# Altium integrated library SparkFun-Boards.Library.IntLib: 67 symbols (part 1 of 2)
Pins are listed as number, name and electrical type; pins without a type are passive.

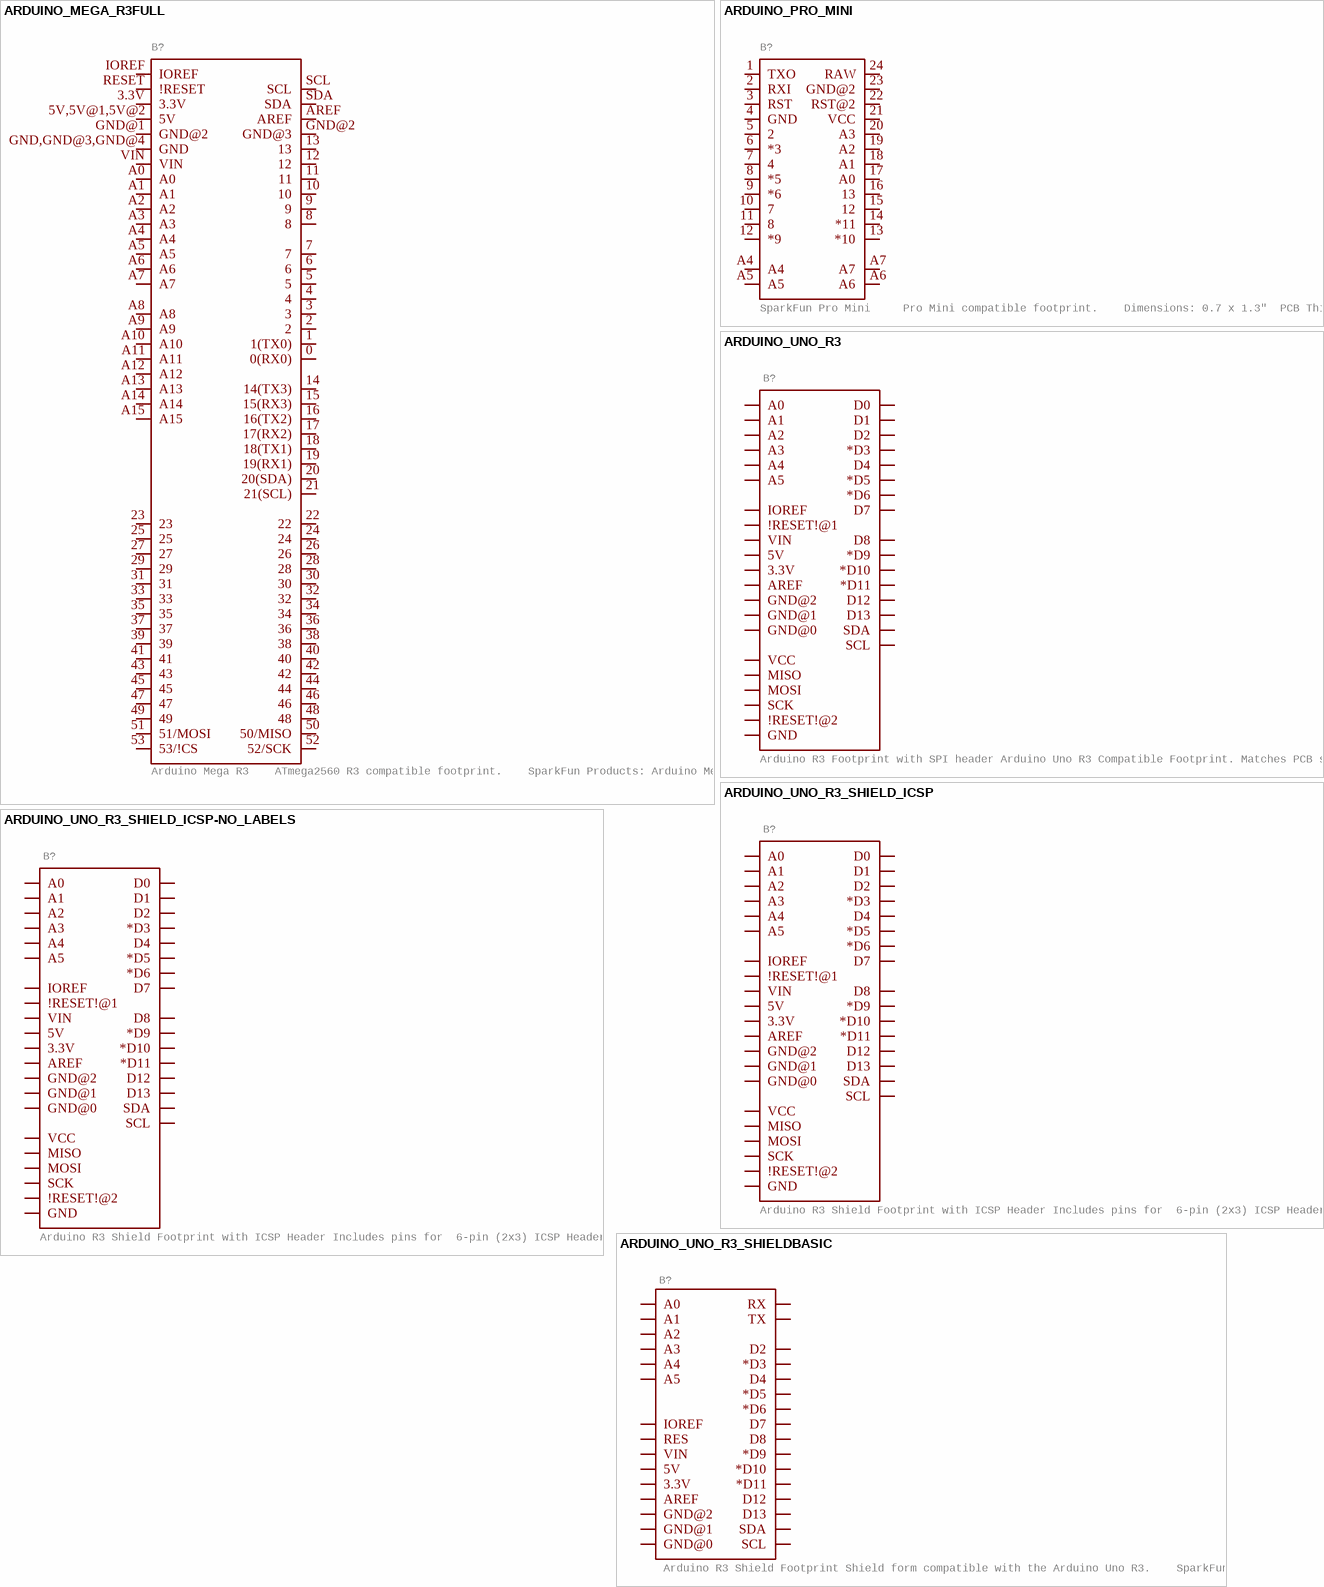
[diagram p0: symbols ARDUINO_MEGA_R3FULL to ARDUINO_UNO_R3_SHIELDBASIC]

## ARDUINO_MEGA_R3FULL
designator B?, comment Arduino Mega R3    ATmega2560 R3 compatible footprint.    SparkFun Products: Arduino Mega 2560 R3
GateName_1: B1; SymbolName_1: ARDUINO-MEGA; DeviceName: FULL; DeviceSetName: ARDUINO_MEGA_R3; LibraryName: SparkFun-Boards; Package: ARDUINO_MEGA_NO_SILK
footprint ARDUINO_MEGA_NO_SILK
pins: 0 0(RX0) (io), 1 1(TX0) (io), 2 (io), 3 (io), 3.3V (io), 4 (io), 5 (io), 5V,5V@1,5V@2 5V (io), 6 (io), 7 (io), 8 (io), 9 (io), 10 (io), 11 (io), 12 (io), 13 (io), 14 14(TX3) (io), 15 15(RX3) (io), 16 16(TX2) (io), 17 17(RX2) (io), 18 18(TX1) (io), 19 19(RX1) (io), 20 20(SDA) (io), 21 21(SCL) (io), 22 (io), 23 (io), 24 (io), 25 (io), 26 (io), 27 (io), 28 (io), 29 (io), 30 (io), 31 (io), 32 (io), 33 (io), 34 (io), 35 (io), 36 (io), 37 (io), 38 (io), 39 (io), 40 (io), 41 (io), 42 (io), 43 (io), 44 (io), 45 (io), 46 (io), 47 (io), 48 (io), 49 (io), 50 50/MISO (io), 51 51/MOSI (io), 52 52/SCK (io), 53 53/!CS (io), A0 (io), A1 (io), A2 (io), A3 (io), A4 (io), A5 (io), A6 (io), A7 (io), A8 (io), A9 (io), A10 (io), A11 (io), A12 (io), A13 (io), A14 (io), A15 (io), AREF (io), GND,GND@3,GND@4 GND (io), GND@1 GND@2 (io), GND@2 GND@3 (io), IOREF (io), RESET !RESET (io), SCL (io), SDA (io), VIN (io)

## ARDUINO_PRO_MINI
designator B?, comment SparkFun Pro Mini     Pro Mini compatible footprint.    Dimensions: 0.7 x 1.3"  PCB Thickness: 0.8mm    SparkFun Products: 3.3V/8MHz  5V/16MHz
GateName_1: G$1; SymbolName_1: PRO_MINI; DeviceSetName: ARDUINO_PRO_MINI; LibraryName: SparkFun-Boards; Package: ARDUINO_PRO_MINI
footprint ARDUINO_PRO_MINI
pins: 1 TXO (io), 2 RXI (io), 3 RST (io), 4 GND (power), 5 2 (io), 6 *3 (io), 7 4 (io), 8 *5 (io), 9 *6 (io), 10 7 (io), 11 8 (io), 12 *9 (io), 13 *10 (io), 14 *11 (io), 15 12 (io), 16 13 (io), 17 A0 (io), 18 A1 (io), 19 A2 (io), 20 A3 (io), 21 VCC (power), 22 RST@2 (io), 23 GND@2 (power), 24 RAW (power), A4 (io), A5 (io), A6 (io), A7 (io)

## ARDUINO_UNO_R3
designator B?, comment Arduino R3 Footprint with SPI header Arduino Uno R3 Compatible Footprint. Matches PCB size of the original board.    SparkFun Products:  SAMD21 Dev Breakout  RedBoard   R3 Stackable Headers
GateName_1: G$1; SymbolName_1: ARDUINO_R3; DeviceSetName: ARDUINO_UNO_R3; LibraryName: SparkFun-Boards; Package: ARDUINO_R3
footprint ARDUINO_R3
pins: 3.3V (io), 5V (io), A0 (io), A1 (io), A2 (io), A3 (io), A4 (io), A5 (io), AREF (io), D0 (io), D1 (io), D2 (io), D3 *D3 (io), D4 (io), D5 *D5 (io), D6 *D6 (io), D7 (io), D8 (io), D9 *D9 (io), D10 *D10 (io), D11 *D11 (io), D12 (io), D13 (io), GND@1 GND (io), GND@2 GND@0 (io), GND@3 GND@1 (io), GND@4 GND@2 (io), IOREF (io), MISO (io), MOSI (io), RESET@1 !RESET!@1 (io), RESET@2 !RESET!@2 (io), SCK (io), SCL (io), SDA (io), VCC (io), VIN (io)

## ARDUINO_UNO_R3_SHIELD_ICSP
designator B?, comment Arduino R3 Shield Footprint with ICSP Header Includes pins for  6-pin (2x3) ICSP Header. Compatible with Leonardo boards that require SPI pin connections via this header.    SparkFun Products:  CryptoShield  microSD Shield R3 Stackable Headers Kit
GateName_1: G$1; SymbolName_1: ARDUINO_R3; DeviceSetName: ARDUINO_UNO_R3_SHIELD_ICSP; LibraryName: SparkFun-Boards; Package: UNO_R3_SHIELD_ICSP
footprint UNO_R3_SHIELD_ICSP
pins: 3.3V (io), 5V (io), 5V_ICSP VCC (io), A0 (io), A1 (io), A2 (io), A3 (io), A4 (io), A5 (io), AREF (io), D2 (io), D3 *D3 (io), D4 (io), D5 *D5 (io), D6 *D6 (io), D7 (io), D8 (io), D9 *D9 (io), D10 *D10 (io), D11 *D11 (io), D12 (io), D13 (io), GND@0 (io), GND@1 (io), GND@2 (io), GND_ICSP GND (io), IOREF (io), MISO (io), MOSI (io), RES !RESET!@1 (io), RST_ICSP !RESET!@2 (io), RX D0 (io), SCK (io), SCL (io), SDA (io), TX D1 (io), VIN (io)

## ARDUINO_UNO_R3_SHIELD_ICSP-NO_LABELS
designator B?, comment Arduino R3 Shield Footprint with ICSP Header Includes pins for  6-pin (2x3) ICSP Header. Compatible with Leonardo boards that require SPI pin connections via this header.    SparkFun Products:  CryptoShield  microSD Shield R3 Stackable Headers Kit
GateName_1: G$1; SymbolName_1: ARDUINO_R3; DeviceName: -NO_LABELS; DeviceSetName: ARDUINO_UNO_R3_SHIELD_ICSP; LibraryName: SparkFun-Boards; Package: UNO_R3_SHIELD_ICSP_NOLABELS
footprint UNO_R3_SHIELD_ICSP_NOLABELS
pins: 3.3V (io), 5V (io), 5V_ICSP VCC (io), A0 (io), A1 (io), A2 (io), A3 (io), A4 (io), A5 (io), AREF (io), D2 (io), D3 *D3 (io), D4 (io), D5 *D5 (io), D6 *D6 (io), D7 (io), D8 (io), D9 *D9 (io), D10 *D10 (io), D11 *D11 (io), D12 (io), D13 (io), GND@0 (io), GND@1 (io), GND@2 (io), GND_ICSP GND (io), IOREF (io), MISO (io), MOSI (io), RES !RESET!@1 (io), RST_ICSP !RESET!@2 (io), RX D0 (io), SCK (io), SCL (io), SDA (io), TX D1 (io), VIN (io)

## ARDUINO_UNO_R3_SHIELDBASIC
designator B?, comment Arduino R3 Shield Footprint Shield form compatible with the Arduino Uno R3.    SparkFun Products:  MG2639 Cellular Shield  MIDI Shield R3 Stackable Headers Kit
GateName_1: G$1; SymbolName_1: ARDUINO_R3_SHIELD; DeviceName: BASIC; DeviceSetName: ARDUINO_UNO_R3_SHIELD; LibraryName: SparkFun-Boards; Package: UNO_R3_SHIELD
footprint UNO_R3_SHIELD
pins: 3.3V (io), 5V (io), A0 (io), A1 (io), A2 (io), A3 (io), A4 (io), A5 (io), AREF (io), D2 (io), D3 *D3 (io), D4 (io), D5 *D5 (io), D6 *D6 (io), D7 (io), D8 (io), D9 *D9 (io), D10 *D10 (io), D11 *D11 (io), D12 (io), D13 (io), GND@0 (io), GND@1 (io), GND@2 (io), IOREF (io), RES (io), RX (io), SCL (io), SDA (io), TX (io), VIN (io)

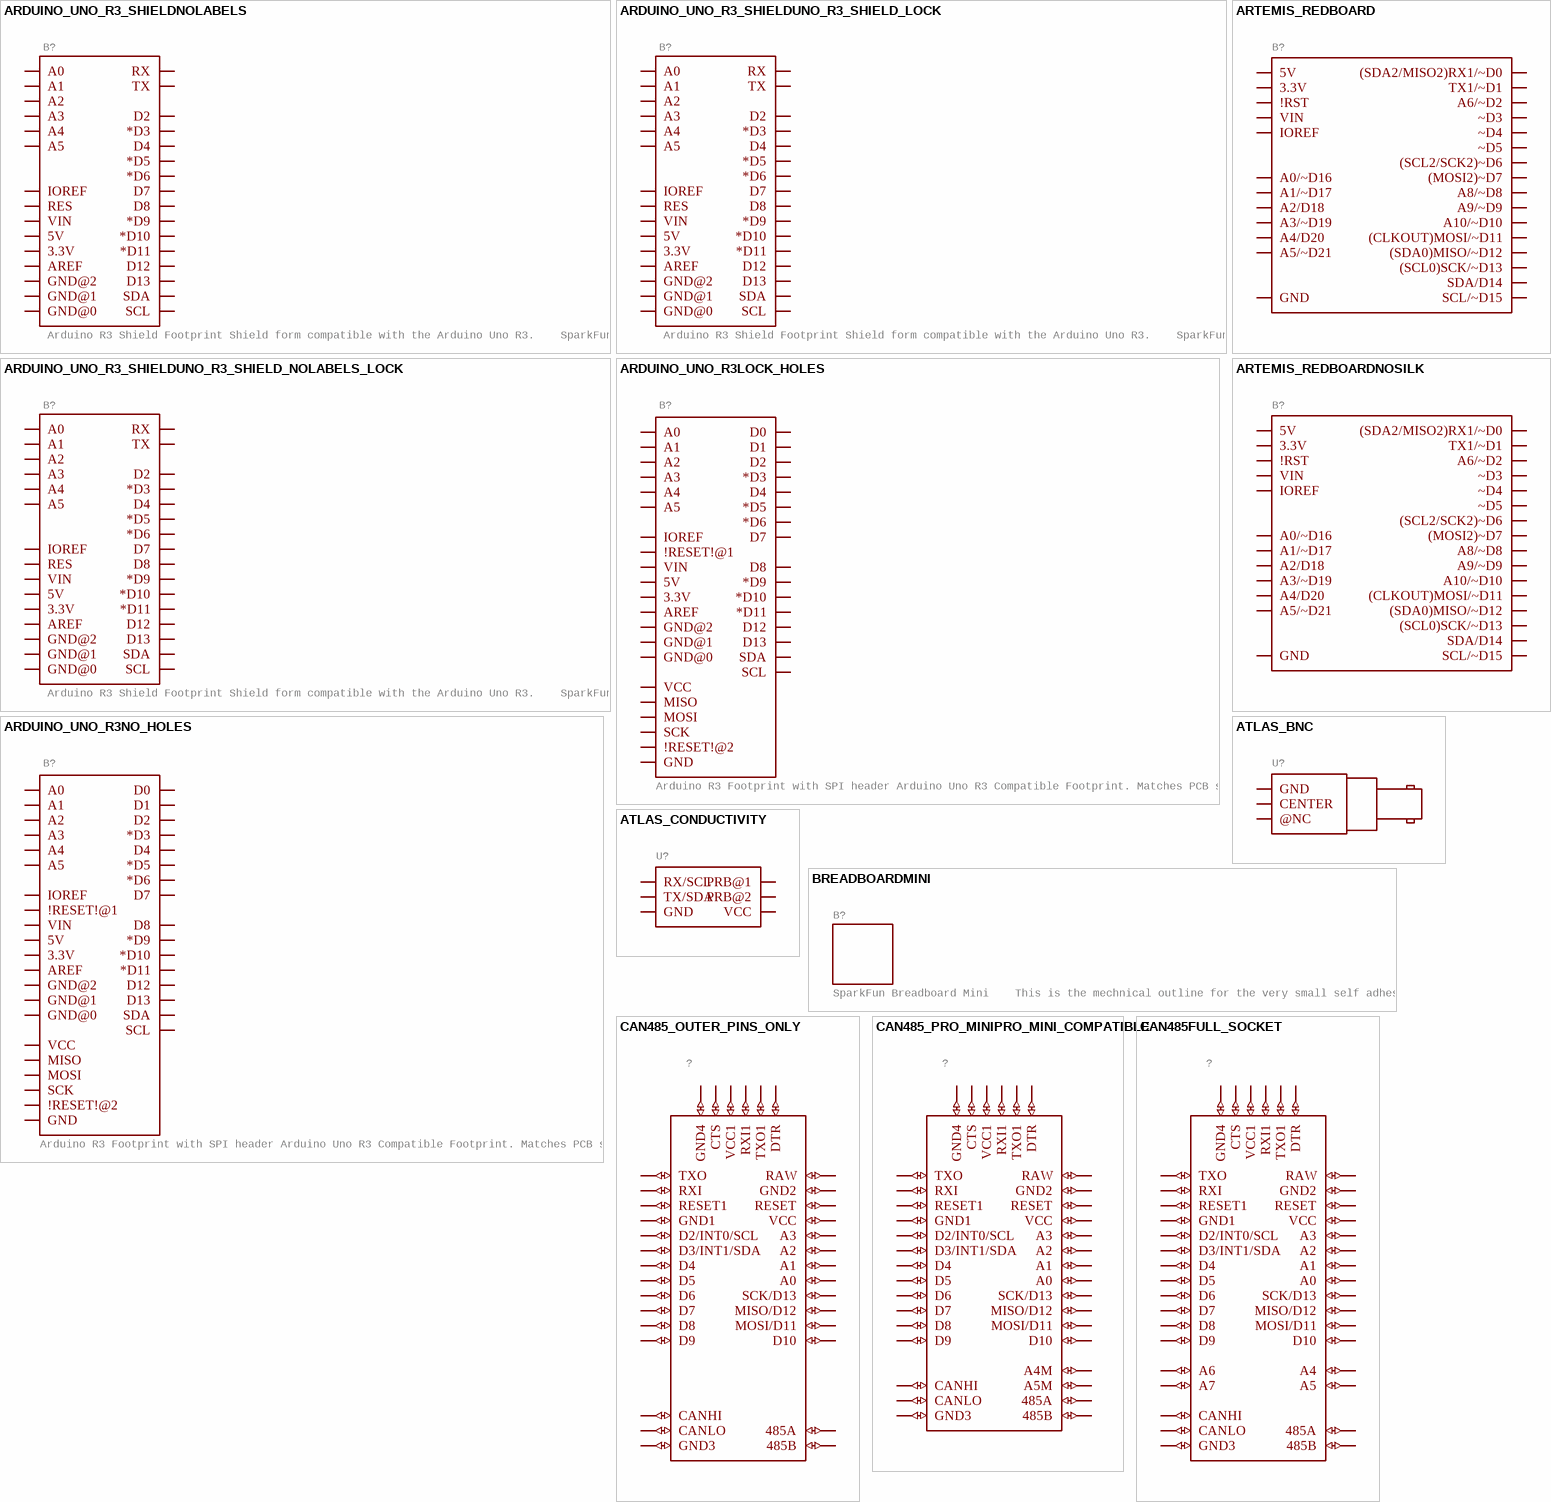
[diagram p1: symbols ARDUINO_UNO_R3_SHIELDNOLABELS to CAN485FULL_SOCKET]

## ARDUINO_UNO_R3_SHIELDNOLABELS
designator B?, comment Arduino R3 Shield Footprint Shield form compatible with the Arduino Uno R3.    SparkFun Products:  MG2639 Cellular Shield  MIDI Shield R3 Stackable Headers Kit
GateName_1: G$1; SymbolName_1: ARDUINO_R3_SHIELD; DeviceName: NOLABELS; DeviceSetName: ARDUINO_UNO_R3_SHIELD; LibraryName: SparkFun-Boards; Package: UNO_R3_SHIELD_NOLABELS
footprint UNO_R3_SHIELD_NOLABELS
pins: 3.3V (io), 5V (io), A0 (io), A1 (io), A2 (io), A3 (io), A4 (io), A5 (io), AREF (io), D2 (io), D3 *D3 (io), D4 (io), D5 *D5 (io), D6 *D6 (io), D7 (io), D8 (io), D9 *D9 (io), D10 *D10 (io), D11 *D11 (io), D12 (io), D13 (io), GND@0 (io), GND@1 (io), GND@2 (io), IOREF (io), RES (io), RX (io), SCL (io), SDA (io), TX (io), VIN (io)

## ARDUINO_UNO_R3_SHIELDUNO_R3_SHIELD_LOCK
designator B?, comment Arduino R3 Shield Footprint Shield form compatible with the Arduino Uno R3.    SparkFun Products:  MG2639 Cellular Shield  MIDI Shield R3 Stackable Headers Kit
GateName_1: G$1; SymbolName_1: ARDUINO_R3_SHIELD; DeviceName: UNO_R3_SHIELD_LOCK; DeviceSetName: ARDUINO_UNO_R3_SHIELD; LibraryName: SparkFun-Boards; Package: UNO_R3_SHIELD_LOCK
footprint UNO_R3_SHIELD_LOCK
pins: 3.3V (io), 5V (io), A0 (io), A1 (io), A2 (io), A3 (io), A4 (io), A5 (io), AREF (io), D2 (io), D3 *D3 (io), D4 (io), D5 *D5 (io), D6 *D6 (io), D7 (io), D8 (io), D9 *D9 (io), D10 *D10 (io), D11 *D11 (io), D12 (io), D13 (io), GND@0 (io), GND@1 (io), GND@2 (io), IOREF (io), RES (io), RX (io), SCL (io), SDA (io), TX (io), VIN (io)

## ARDUINO_UNO_R3_SHIELDUNO_R3_SHIELD_NOLABELS_LOCK
designator B?, comment Arduino R3 Shield Footprint Shield form compatible with the Arduino Uno R3.    SparkFun Products:  MG2639 Cellular Shield  MIDI Shield R3 Stackable Headers Kit
GateName_1: G$1; SymbolName_1: ARDUINO_R3_SHIELD; DeviceName: UNO_R3_SHIELD_NOLABELS_LOCK; DeviceSetName: ARDUINO_UNO_R3_SHIELD; LibraryName: SparkFun-Boards; Package: UNO_R3_SHIELD_NOLABELS_LOCK
footprint UNO_R3_SHIELD_NOLABELS_LOCK
pins: 3.3V (io), 5V (io), A0 (io), A1 (io), A2 (io), A3 (io), A4 (io), A5 (io), AREF (io), D2 (io), D3 *D3 (io), D4 (io), D5 *D5 (io), D6 *D6 (io), D7 (io), D8 (io), D9 *D9 (io), D10 *D10 (io), D11 *D11 (io), D12 (io), D13 (io), GND@0 (io), GND@1 (io), GND@2 (io), IOREF (io), RES (io), RX (io), SCL (io), SDA (io), TX (io), VIN (io)

## ARDUINO_UNO_R3LOCK_HOLES
designator B?, comment Arduino R3 Footprint with SPI header Arduino Uno R3 Compatible Footprint. Matches PCB size of the original board.    SparkFun Products:  SAMD21 Dev Breakout  RedBoard   R3 Stackable Headers
GateName_1: G$1; SymbolName_1: ARDUINO_R3; DeviceName: LOCK_HOLES; DeviceSetName: ARDUINO_UNO_R3; LibraryName: SparkFun-Boards; Package: ARDUINO_R3_LOCK_HOLES
footprint ARDUINO_R3_LOCK_HOLES
pins: 3.3V (io), 5V (io), A0 (io), A1 (io), A2 (io), A3 (io), A4 (io), A5 (io), AREF (io), D0 (io), D1 (io), D2 (io), D3 *D3 (io), D4 (io), D5 *D5 (io), D6 *D6 (io), D7 (io), D8 (io), D9 *D9 (io), D10 *D10 (io), D11 *D11 (io), D12 (io), D13 (io), GND@1 GND (io), GND@2 GND@0 (io), GND@3 GND@1 (io), GND@4 GND@2 (io), IOREF (io), MISO (io), MOSI (io), RESET@1 !RESET!@1 (io), RESET@2 !RESET!@2 (io), SCK (io), SCL (io), SDA (io), VCC (io), VIN (io)

## ARDUINO_UNO_R3NO_HOLES
designator B?, comment Arduino R3 Footprint with SPI header Arduino Uno R3 Compatible Footprint. Matches PCB size of the original board.    SparkFun Products:  SAMD21 Dev Breakout  RedBoard   R3 Stackable Headers
GateName_1: G$1; SymbolName_1: ARDUINO_R3; DeviceName: NO_HOLES; DeviceSetName: ARDUINO_UNO_R3; LibraryName: SparkFun-Boards; Package: ARDUINO_R3_NO_HOLES
footprint ARDUINO_R3_NO_HOLES
pins: 3.3V (io), 5V (io), A0 (io), A1 (io), A2 (io), A3 (io), A4 (io), A5 (io), AREF (io), D0 (io), D1 (io), D2 (io), D3 *D3 (io), D4 (io), D5 *D5 (io), D6 *D6 (io), D7 (io), D8 (io), D9 *D9 (io), D10 *D10 (io), D11 *D11 (io), D12 (io), D13 (io), GND@1 GND (io), GND@2 GND@0 (io), GND@3 GND@1 (io), GND@4 GND@2 (io), IOREF (io), MISO (io), MOSI (io), RESET@1 !RESET!@1 (io), RESET@2 !RESET!@2 (io), SCK (io), SCL (io), SDA (io), VCC (io), VIN (io)

## ARTEMIS_REDBOARD
designator B?
GateName_1: G$1; SymbolName_1: ARTEMIS_REDBOARD; LibraryName: SparkFun-Boards; DeviceSetName: ARTEMIS_REDBOARD; Package: ARTEMIS_REDBOARD_SILK
footprint ARTEMIS_REDBOARD_SILK
pins: 3.3V (io), 5V (io), A0 A0/~D16 (io), A1 A1/~D17 (io), A2 A2/D18 (io), A3 A3/~D19 (io), A4 A4/D20 (io), A5 A5/~D21 (io), D0 (SDA2/MISO2)RX1/~D0 (io), D1 TX1/~D1 (io), D2 A6/~D2 (io), D3 ~D3 (io), D4 ~D4 (io), D5 ~D5 (io), D6 (SCL2/SCK2)~D6 (io), D7 (MOSI2)~D7 (io), D8 A8/~D8 (io), D9 A9/~D9 (io), D10 A10/~D10 (io), D11 (CLKOUT)MOSI/~D11 (io), D12 (SDA0)MISO/~D12 (io), D13 (SCL0)SCK/~D13 (io), GND@1-4 GND (io), IOREF (io), RESET@1 !RST (io), SCL SCL/~D15 (io), SDA SDA/D14 (io), VIN (io)

## ARTEMIS_REDBOARDNOSILK
designator B?
GateName_1: G$1; SymbolName_1: ARTEMIS_REDBOARD; DeviceName: NOSILK; LibraryName: SparkFun-Boards; DeviceSetName: ARTEMIS_REDBOARD; Package: ARTEMIS_REDBOARD_NO_SILK
footprint ARTEMIS_REDBOARD_NO_SILK
pins: 3.3V (io), 5V (io), A0 A0/~D16 (io), A1 A1/~D17 (io), A2 A2/D18 (io), A3 A3/~D19 (io), A4 A4/D20 (io), A5 A5/~D21 (io), D0 (SDA2/MISO2)RX1/~D0 (io), D1 TX1/~D1 (io), D2 A6/~D2 (io), D3 ~D3 (io), D4 ~D4 (io), D5 ~D5 (io), D6 (SCL2/SCK2)~D6 (io), D7 (MOSI2)~D7 (io), D8 A8/~D8 (io), D9 A9/~D9 (io), D10 A10/~D10 (io), D11 (CLKOUT)MOSI/~D11 (io), D12 (SDA0)MISO/~D12 (io), D13 (SCL0)SCK/~D13 (io), GND@1-4 GND (io), IOREF (io), RESET@1 !RST (io), SCL SCL/~D15 (io), SDA SDA/D14 (io), VIN (io)

## ATLAS_BNC
designator U?
GateName_1: G$1; SymbolName_1: ATLAS_BNC; LibraryName: SparkFun-Boards; DeviceSetName: ATLAS_BNC; Package: ATLAS_BNC
footprint ATLAS_BNC
pins: CENTER (io), GND (io), NC @NC

## ATLAS_CONDUCTIVITY
designator U?
GateName_1: G$1; SymbolName_1: ATLAS_CONDUCTIVITY; LibraryName: SparkFun-Boards; DeviceSetName: ATLAS_CONDUCTIVITY; Package: ATLAS_CONDUCTIVITY
footprint ATLAS_CONDUCTIVITY
pins: GND (power), PRB@1 (io), PRB@2 (io), RX/SCL (io), TX/SDA (io), VCC (power)

## BIG_RED_BOX-PCBDIMENSION
designator B?, comment Big Red Box - Enclosure Footprint PCB footprint compatbile with Big Red Box Enclosure.    SparkFun Products:  Big Red Box - Enclosure  Stepoko  (value not drawn)
GateName_1: G$1; SymbolName_1: BIG_RED_PCB; DeviceName: DIMENSION; DeviceSetName: BIG_RED_BOX-PCB; LibraryName: SparkFun-Boards; Package: FLANGED_RED_ENCLOSURE-DIMENSION
footprint FLANGED_RED_ENCLOSURE-DIMENSION

## BIG_RED_BOX-PCBREFERENCE
designator B?, comment Big Red Box - Enclosure Footprint PCB footprint compatbile with Big Red Box Enclosure.    SparkFun Products:  Big Red Box - Enclosure  Stepoko  (value not drawn)
GateName_1: G$1; SymbolName_1: BIG_RED_PCB; DeviceName: REFERENCE; DeviceSetName: BIG_RED_BOX-PCB; LibraryName: SparkFun-Boards; Package: FLANGED_RED_ENCLOSURE-OUTLINE
footprint FLANGED_RED_ENCLOSURE-OUTLINE

## BREADBOARDMINI
designator B?, comment SparkFun Breadboard Mini    This is the mechnical outline for the very small self adhesive breadboard from SparkFun Electronics and our prototyping breadboard of the same size. Good for very small proto areas.   SparkFun Products: White  Green  Black
GateName_1: G$1; PROD_ID: COMP-12034; SymbolName_1: BREADBOARD; DeviceName: MINI; LibraryName: SparkFun-Boards; DeviceSetName: BREADBOARD; Package: BREADBOARD-MINI
footprint BREADBOARD-MINI

## CAN485_OUTER_PINS_ONLY
designator ?
GateName_1: G$1; SymbolName_1: CAN485_OUTER_ONLY; DeviceSetName: CAN485_OUTER_PINS_ONLY; LibraryName: SparkFun-Boards; Package: CAN485_OUTER_ONLY
footprint CAN485_OUTER_ONLY
pins: 2 D2/INT0/SCL (io), 3 D3/INT1/SDA (io), 4 D4 (io), 5 D5 (io), 6 D6 (io), 7 D7 (io), 8 D8 (io), 9 D9 (io), 10 D10 (io), 11 MOSI/D11 (io), 12 MISO/D12 (io), 13 SCK/D13 (io), 485A (io), 485B (io), A0 (io), A1 (io), A2 (io), A3 (io), CANHI (io), CANLO (io), CTS (io), DTR (io), GND1 (io), GND2 (io), GND3 (io), GND4 (io), RAW (io), RST RESET (io), RST1 RESET1 (io), RXI (io), RXI1 (io), TXO (io), TXO1 (io), VCC (io), VCC1 (io)

## CAN485_PRO_MINIPRO_MINI_COMPATIBLE
designator ?
GateName_1: G$1; SymbolName_1: CAN485_PRO_MINI; DeviceName: PRO_MINI_COMPATIBLE; LibraryName: SparkFun-Boards; DeviceSetName: CAN485_PRO_MINI; Package: CAN485_PRO_MINI
footprint CAN485_PRO_MINI
pins: 2 D2/INT0/SCL (io), 3 D3/INT1/SDA (io), 4 D4 (io), 5 D5 (io), 6 D6 (io), 7 D7 (io), 8 D8 (io), 9 D9 (io), 10 D10 (io), 11 MOSI/D11 (io), 12 MISO/D12 (io), 13 SCK/D13 (io), 485A (io), 485B (io), A0 (io), A1 (io), A2 (io), A3 (io), A4M (io), A5M (io), CANHI (io), CANLO (io), CTS (io), DTR (io), GND1 (io), GND2 (io), GND3 (io), GND4 (io), RAW (io), RST RESET (io), RST1 RESET1 (io), RXI (io), RXI1 (io), TXO (io), TXO1 (io), VCC (io), VCC1 (io)

## CAN485FULL_SOCKET
designator ?
GateName_1: G$1; SymbolName_1: CAN485; DeviceName: FULL_SOCKET; LibraryName: SparkFun-Boards; DeviceSetName: CAN485; Package: CAN485
footprint CAN485
pins: 2 D2/INT0/SCL (io), 3 D3/INT1/SDA (io), 4 D4 (io), 5 D5 (io), 6 D6 (io), 7 D7 (io), 8 D8 (io), 9 D9 (io), 10 D10 (io), 11 MOSI/D11 (io), 12 MISO/D12 (io), 13 SCK/D13 (io), 485A (io), 485B (io), A0 (io), A1 (io), A2 (io), A3 (io), A4 (io), A5 (io), A6 (io), A7 (io), CANHI (io), CANLO (io), CTS (io), DTR (io), GND1 (io), GND2 (io), GND3 (io), GND4 (io), RAW (io), RST RESET (io), RST1 RESET1 (io), RXI (io), RXI1 (io), TXO (io), TXO1 (io), VCC (io), VCC1 (io)

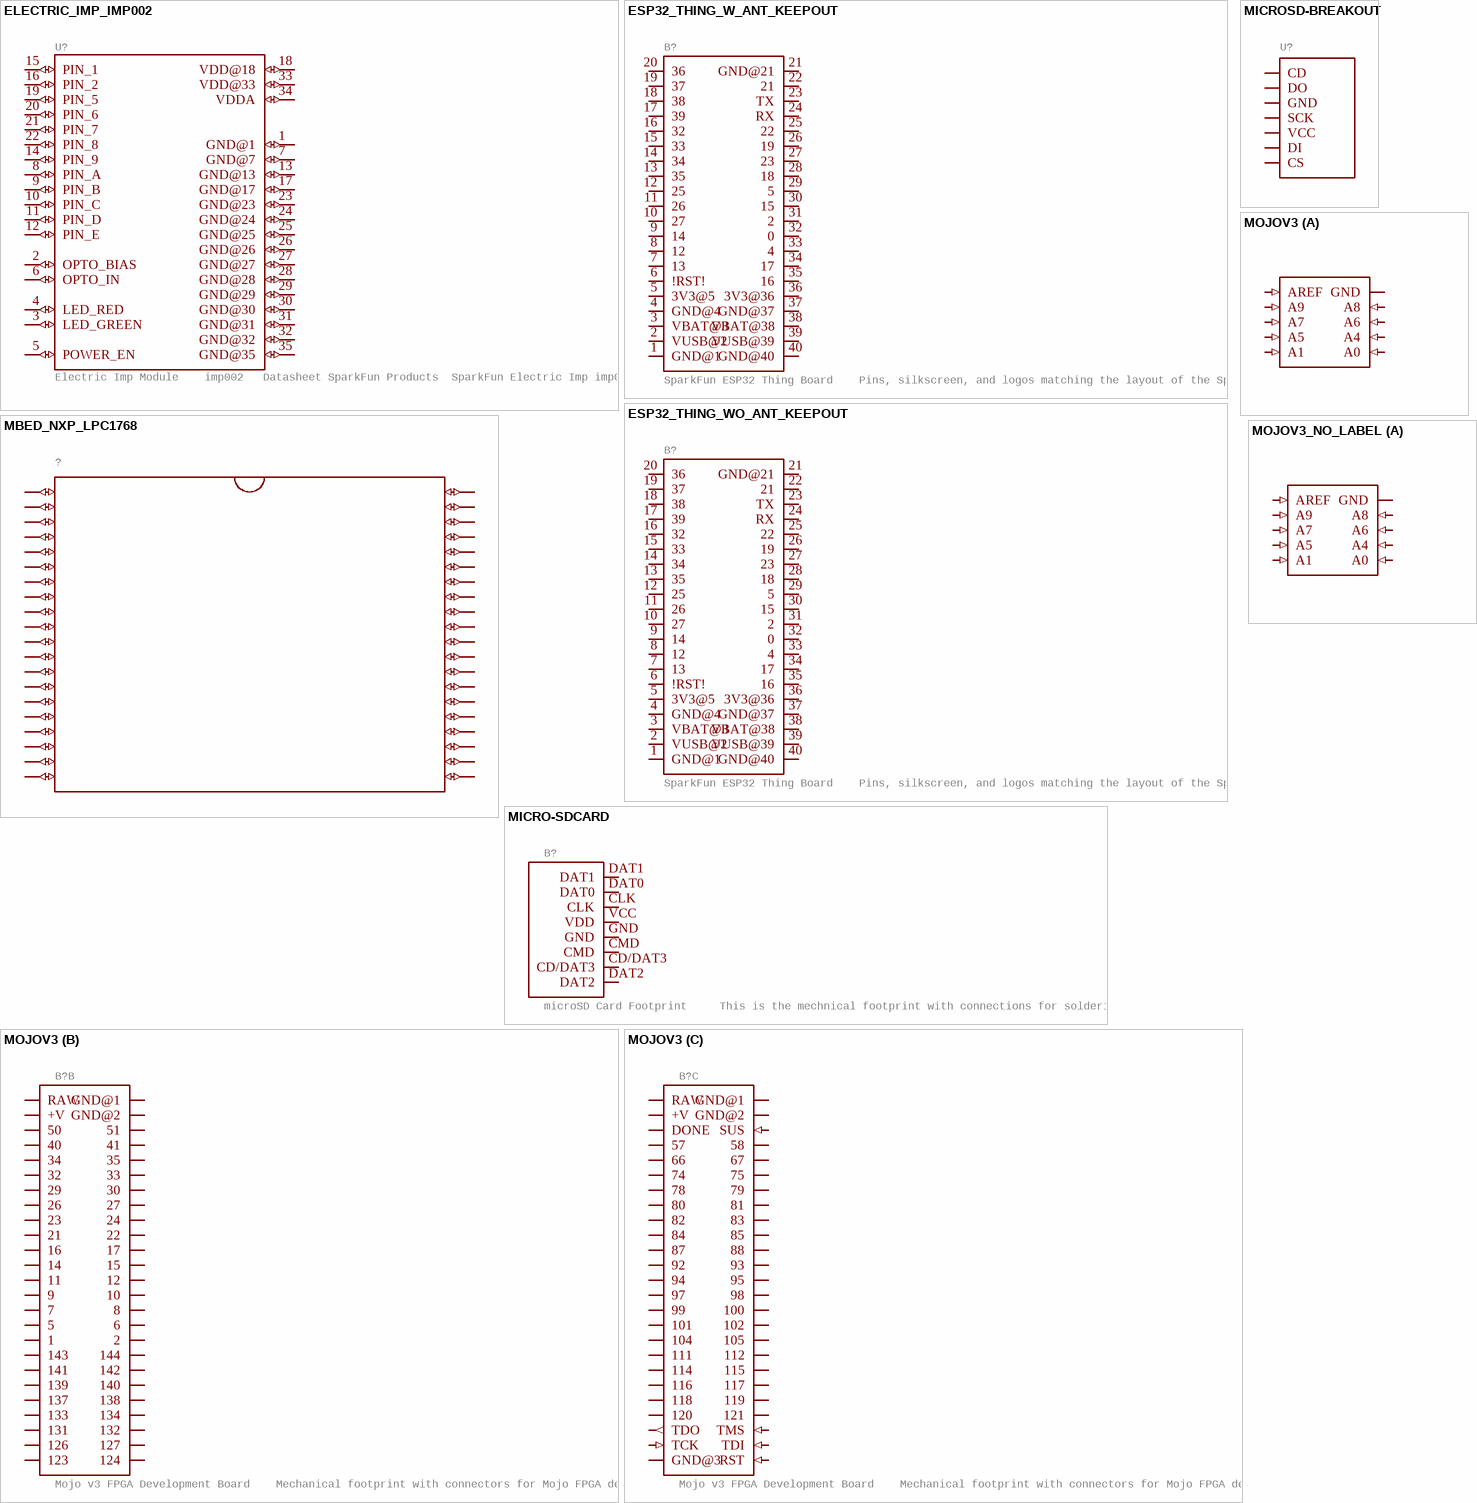
[diagram p2: symbols ELECTRIC_IMP_IMP002 to MOJOV3_NO_LABEL]

## ELECTRIC_IMP_IMP002
designator U?, comment Electric Imp Module    imp002   Datasheet SparkFun Products  SparkFun Electric Imp imp002 Breakout (BOB-12958)
GateName_1: G$1; SymbolName_1: ELECTRIC_IMP_IMP002; PROD_ID: IC-12130; LibraryName: SparkFun-Boards; DeviceSetName: ELECTRIC_IMP_IMP002; Package: ELECTRIC_IMP_IMP002
footprint ELECTRIC_IMP_IMP002
pins: 1 GND@1 (io), 2 OPTO_BIAS (io), 3 LED_GREEN (io), 4 LED_RED (io), 5 POWER_EN (io), 6 OPTO_IN (io), 7 GND@7 (io), 8 PIN_A (io), 9 PIN_B (io), 10 PIN_C (io), 11 PIN_D (io), 12 PIN_E (io), 13 GND@13 (io), 14 PIN_9 (io), 15 PIN_1 (io), 16 PIN_2 (io), 17 GND@17 (io), 18 VDD@18 (io), 19 PIN_5 (io), 20 PIN_6 (io), 21 PIN_7 (io), 22 PIN_8 (io), 23 GND@23 (io), 24 GND@24 (io), 25 GND@25 (io), 26 GND@26 (io), 27 GND@27 (io), 28 GND@28 (io), 29 GND@29 (io), 30 GND@30 (io), 31 GND@31 (io), 32 GND@32 (io), 33 VDD@33 (io), 34 VDDA (io), 35 GND@35 (io)

## ESP32_THING_W_ANT_KEEPOUT
designator B?, comment SparkFun ESP32 Thing Board    Pins, silkscreen, and logos matching the layout of the SparkFun ESP32 Thing   Dimensions: 2.32" x 1.00"
GateName_1: G$1; SymbolName_1: ESP32_THING; DeviceName: _W_ANT_KEEPOUT; SF_ID: DEV-13907; LibraryName: SparkFun-Boards; DeviceSetName: ESP32_THING; Package: ESP32_THING
footprint ESP32_THING
pins: 1 GND@1 (io), 2 VUSB@2 (io), 3 VBAT@3 (io), 4 GND@4 (io), 5 3V3@5 (io), 6 !RST! (io), 7 13 (io), 8 12 (io), 9 14 (io), 10 27 (io), 11 26 (io), 12 25 (io), 13 35 (io), 14 34 (io), 15 33 (io), 16 32 (io), 17 39 (io), 18 38 (io), 19 37 (io), 20 36 (io), 21 GND@21 (io), 22 21 (io), 23 TX (io), 24 RX (io), 25 22 (io), 26 19 (io), 27 23 (io), 28 18 (io), 29 5 (io), 30 15 (io), 31 2 (io), 32 0 (io), 33 4 (io), 34 17 (io), 35 16 (io), 36 3V3@36 (io), 37 GND@37 (io), 38 VBAT@38 (io), 39 VUSB@39 (io), 40 GND@40 (io)

## ESP32_THING_WO_ANT_KEEPOUT
designator B?, comment SparkFun ESP32 Thing Board    Pins, silkscreen, and logos matching the layout of the SparkFun ESP32 Thing   Dimensions: 2.32" x 1.00"
GateName_1: G$1; SymbolName_1: ESP32_THING; DeviceName: _WO_ANT_KEEPOUT; LibraryName: SparkFun-Boards; DeviceSetName: ESP32_THING; Package: ESP32_THING_NO_ANT
footprint ESP32_THING_NO_ANT
pins: 1 GND@1 (io), 2 VUSB@2 (io), 3 VBAT@3 (io), 4 GND@4 (io), 5 3V3@5 (io), 6 !RST! (io), 7 13 (io), 8 12 (io), 9 14 (io), 10 27 (io), 11 26 (io), 12 25 (io), 13 35 (io), 14 34 (io), 15 33 (io), 16 32 (io), 17 39 (io), 18 38 (io), 19 37 (io), 20 36 (io), 21 GND@21 (io), 22 21 (io), 23 TX (io), 24 RX (io), 25 22 (io), 26 19 (io), 27 23 (io), 28 18 (io), 29 5 (io), 30 15 (io), 31 2 (io), 32 0 (io), 33 4 (io), 34 17 (io), 35 16 (io), 36 3V3@36 (io), 37 GND@37 (io), 38 VBAT@38 (io), 39 VUSB@39 (io), 40 GND@40 (io)

## MBED_NXP_LPC1768
designator ?, comment mbed LPC1768 board footprint  Boards using this footprint:  mbed - LPC1768 (Cortex-M3) (DEV-09564)  (value not drawn)
GateName_1: G$1; SymbolName_1: MBED_NXP_LPC1768; PROD_ID: COMP-12167; LibraryName: SparkFun-Boards; DeviceSetName: MBED_NXP_LPC1768; Package: DIL40_0.9
footprint DIL40_0.9
pins: 1 P$1 (io), 2 P$2 (io), 3 P$3 (io), 4 P$4 (io), 5 P$5 (io), 6 P$6 (io), 7 P$7 (io), 8 P$8 (io), 9 P$9 (io), 10 P$10 (io), 11 P$11 (io), 12 P$12 (io), 13 P$13 (io), 14 P$14 (io), 15 P$15 (io), 16 P$16 (io), 17 P$17 (io), 18 P$18 (io), 19 P$19 (io), 20 P$20 (io), 21 P$21 (io), 22 P$22 (io), 23 P$23 (io), 24 P$24 (io), 25 P$25 (io), 26 P$26 (io), 27 P$27 (io), 28 P$28 (io), 29 P$29 (io), 30 P$30 (io), 31 P$31 (io), 32 P$32 (io), 33 P$33 (io), 34 P$34 (io), 35 P$35 (io), 36 P$36 (io), 37 P$37 (io), 38 P$38 (io), 39 P$39 (io), 40 P$40 (io)

## MICRO-SDCARD
designator B?, comment microSD Card Footprint     This is the mechnical footprint with connections for soldering a microSD card - NOT for a socket for the card.   SparkFun Products:
GateName_1: G$1; SymbolName_1: MICRO-SDCARD; LibraryName: SparkFun-Boards; DeviceSetName: MICRO-SDCARD; Package: MICRO-SDCARD
footprint MICRO-SDCARD
pins: CD/DAT3 (io), CLK (io), CMD (io), DAT0 (io), DAT1 (io), DAT2 (io), GND (power), VCC VDD (power)

## MICROSD-BREAKOUT
designator U?
GateName_1: G$1; SymbolName_1: MICROSD-BREAKOUT; LibraryName: SparkFun-Boards; DeviceSetName: MICROSD-BREAKOUT; Package: MICROSD-BREAKOUT
footprint MICROSD-BREAKOUT
pins: CD (io), CS (io), DI (io), DO (io), GND (power), SCK (io), VCC (io)

## MOJOV3
designator B?, comment Mojo v3 FPGA Development Board    Mechanical footprint with connectors for Mojo FPGA dev board.   SparkFun Products:
GateName_1: G$1; SymbolName_1: MOJO_ANALOG_HEADER; GateName_2: G$2; SymbolName_2: MOJO_HEADER_1; GateName_3: G$3; SymbolName_3: MOJO_HEADER_2; DeviceName: V3; LibraryName: SparkFun-Boards; DeviceSetName: MOJO; Package: MOJO_V3
footprint MOJO_V3
part A pins: A0 (in), A1 (in), A4 (in), A5 (in), A6 (in), A7 (in), A8 (in), A9 (in), AREF (in), GND@5 GND (power)
part B pins: 1 (io), 2 (io), 5 (io), 6 (io), 7 (io), 8 (io), 9 (io), 10 (io), 11 (io), 12 (io), 14 (io), 15 (io), 16 (io), 17 (io), 21 (io), 22 (io), 23 (io), 24 (io), 26 (io), 27 (io), 29 (io), 30 (io), 32 (io), 33 (io), 34 (io), 35 (io), 40 (io), 41 (io), 50 (io), 51 (io), 123 (io), 124 (io), 126 (io), 127 (io), 131 (io), 132 (io), 133 (io), 134 (io), 137 (io), 138 (io), 139 (io), 140 (io), 141 (io), 142 (io), 143 (io), 144 (io), GND@1 (power), GND@2 (power), RAW@1 RAW (power), V@1 +V (power)
part C pins: 57 (io), 58 (io), 66 (io), 67 (io), 74 (io), 75 (io), 78 (io), 79 (io), 80 (io), 81 (io), 82 (io), 83 (io), 84 (io), 85 (io), 87 (io), 88 (io), 92 (io), 93 (io), 94 (io), 95 (io), 97 (io), 98 (io), 99 (io), 100 (io), 101 (io), 102 (io), 104 (io), 105 (io), 111 (io), 112 (io), 114 (io), 115 (io), 116 (io), 117 (io), 118 (io), 119 (io), 120 (io), 121 (io), DONE (io), GND@3 GND@1 (power), GND@4 GND@2 (power), GND@6 GND@3 (power), RAW@2 RAW (power), RST (in), SUS (in), TCK (in), TDI (in), TDO (out), TMS (in), V@2 +V (power)

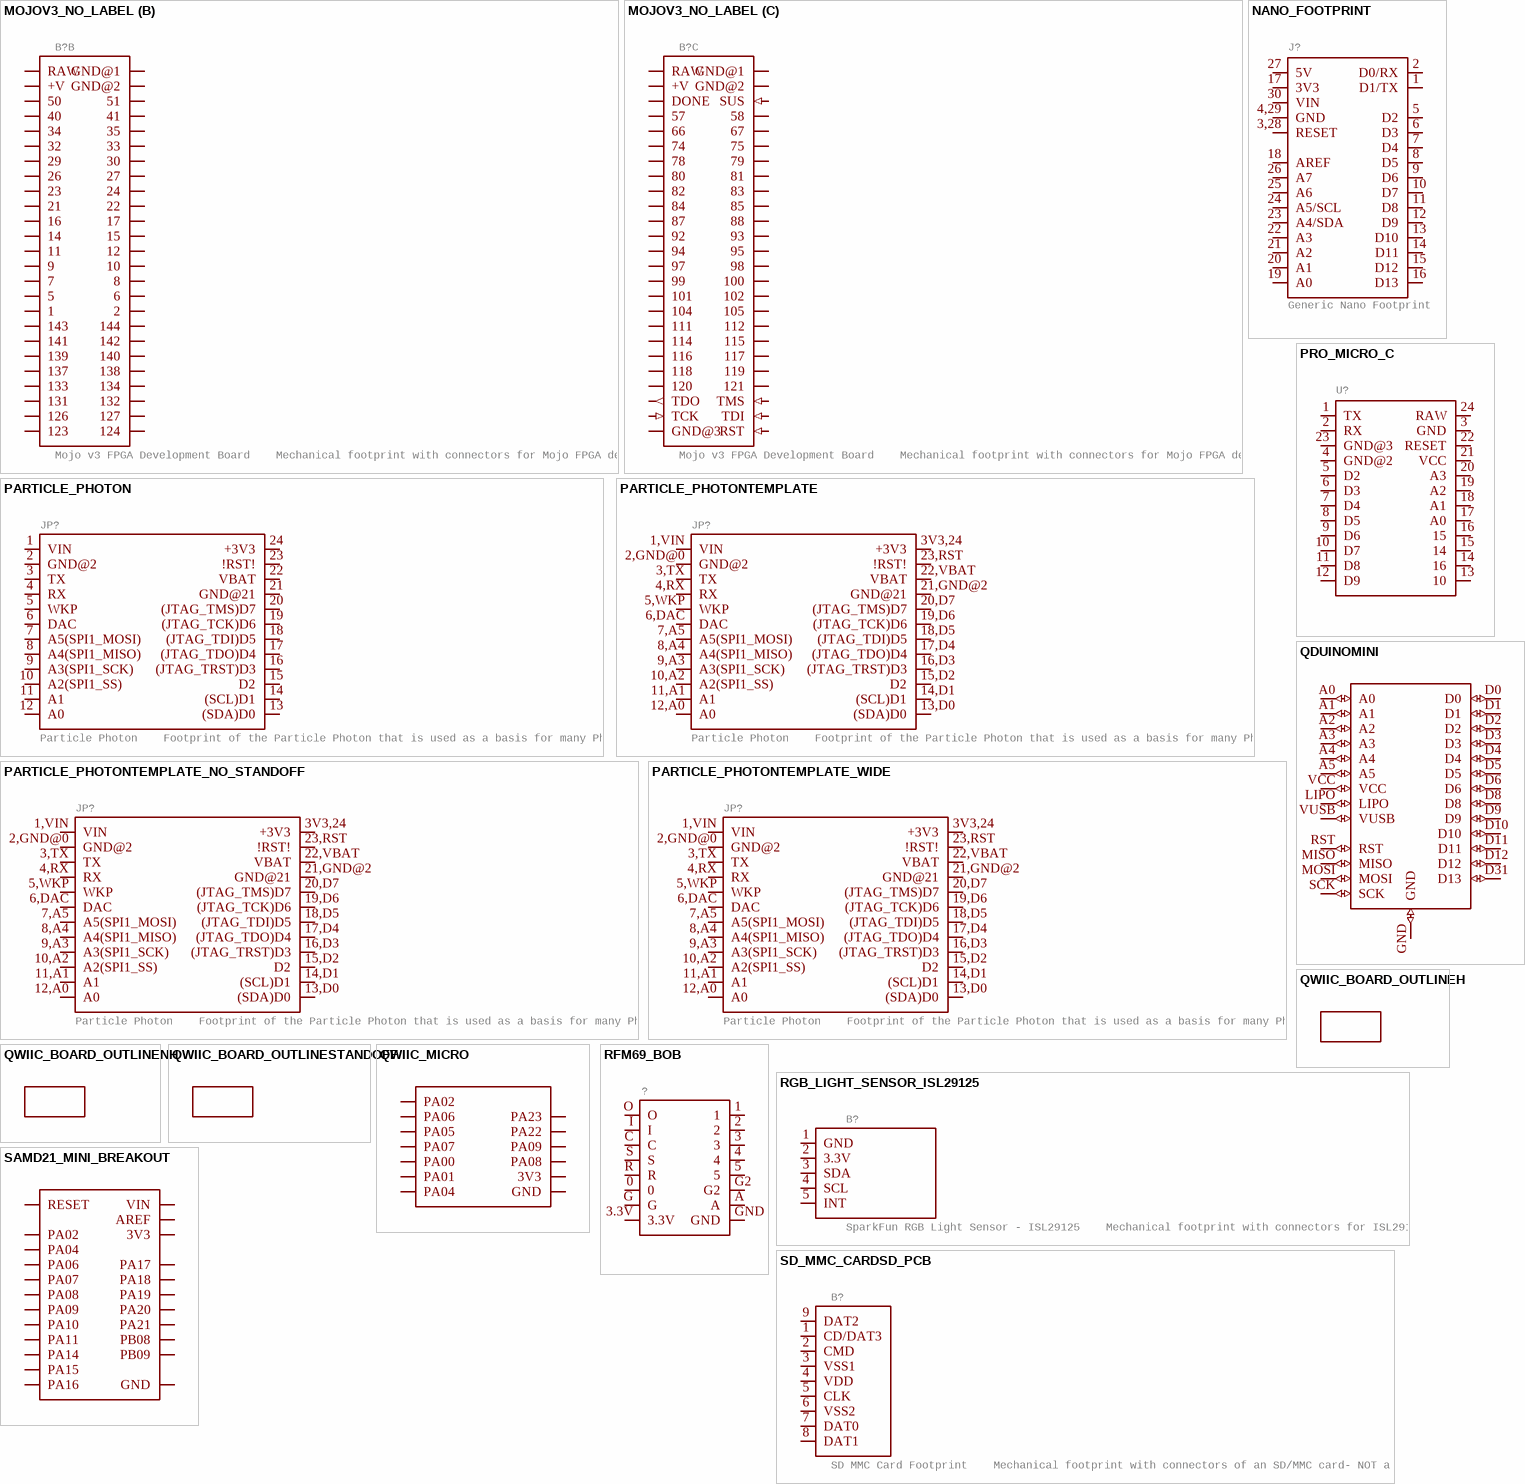
[diagram p3: symbols MOJOV3_NO_LABEL to SD_MMC_CARDSD_PCB]

## MOJOV3_NO_LABEL
designator B?, comment Mojo v3 FPGA Development Board    Mechanical footprint with connectors for Mojo FPGA dev board.   SparkFun Products:
GateName_1: G$1; SymbolName_1: MOJO_ANALOG_HEADER; GateName_2: G$2; SymbolName_2: MOJO_HEADER_1; GateName_3: G$3; SymbolName_3: MOJO_HEADER_2; DeviceName: V3_NO_LABEL; LibraryName: SparkFun-Boards; DeviceSetName: MOJO; Package: MOJO_V3_NO_LABEL
footprint MOJO_V3_NO_LABEL
part A pins: A0 (in), A1 (in), A4 (in), A5 (in), A6 (in), A7 (in), A8 (in), A9 (in), AREF (in), GND@5 GND (power)
part B pins: 1 (io), 2 (io), 5 (io), 6 (io), 7 (io), 8 (io), 9 (io), 10 (io), 11 (io), 12 (io), 14 (io), 15 (io), 16 (io), 17 (io), 21 (io), 22 (io), 23 (io), 24 (io), 26 (io), 27 (io), 29 (io), 30 (io), 32 (io), 33 (io), 34 (io), 35 (io), 40 (io), 41 (io), 50 (io), 51 (io), 123 (io), 124 (io), 126 (io), 127 (io), 131 (io), 132 (io), 133 (io), 134 (io), 137 (io), 138 (io), 139 (io), 140 (io), 141 (io), 142 (io), 143 (io), 144 (io), GND@1 (power), GND@2 (power), RAW@1 RAW (power), V@1 +V (power)
part C pins: 57 (io), 58 (io), 66 (io), 67 (io), 74 (io), 75 (io), 78 (io), 79 (io), 80 (io), 81 (io), 82 (io), 83 (io), 84 (io), 85 (io), 87 (io), 88 (io), 92 (io), 93 (io), 94 (io), 95 (io), 97 (io), 98 (io), 99 (io), 100 (io), 101 (io), 102 (io), 104 (io), 105 (io), 111 (io), 112 (io), 114 (io), 115 (io), 116 (io), 117 (io), 118 (io), 119 (io), 120 (io), 121 (io), DONE (io), GND@3 GND@1 (power), GND@4 GND@2 (power), GND@6 GND@3 (power), RAW@2 RAW (power), RST (in), SUS (in), TCK (in), TDI (in), TDO (out), TMS (in), V@2 +V (power)

## NANO_FOOTPRINT
designator J?, comment Generic Nano Footprint
GateName_1: G$1; DeviceSetName: NANO_FOOTPRINT; SymbolName_1: NANO; LibraryName: SparkFun-Boards; Package: NANO
footprint NANO
pins: 1 D1/TX (io), 2 D0/RX (io), 3,28 RESET (io), 4,29 GND (io), 5 D2 (io), 6 D3 (io), 7 D4 (io), 8 D5 (io), 9 D6 (io), 10 D7 (io), 11 D8 (io), 12 D9 (io), 13 D10 (io), 14 D11 (io), 15 D12 (io), 16 D13 (io), 17 3V3 (io), 18 AREF (io), 19 A0 (io), 20 A1 (io), 21 A2 (io), 22 A3 (io), 23 A4/SDA (io), 24 A5/SCL (io), 25 A6 (io), 26 A7 (io), 27 5V (io), 30 VIN (io)

## PARTICLE_PHOTON
designator JP?, comment Particle Photon    Footprint of the Particle Photon that is used as a basis for many Photon shields.    SparkFun Products:  Particle Photon  SparkFun Photon ProtoShield
GateName_1: G$1; SymbolName_1: PARTICLE_PHOTON; LibraryName: SparkFun-Boards; DeviceSetName: PARTICLE_PHOTON; Package: PARTICLE_PHOTON
footprint PARTICLE_PHOTON
pins: 1 VIN (power), 2 GND@2 (power), 3 TX (io), 4 RX (io), 5 WKP (io), 6 DAC (io), 7 A5(SPI1_MOSI) (io), 8 A4(SPI1_MISO) (io), 9 A3(SPI1_SCK) (io), 10 A2(SPI1_SS) (io), 11 A1 (io), 12 A0 (io), 13 (SDA)D0 (io), 14 (SCL)D1 (io), 15 D2 (io), 16 (JTAG_TRST)D3 (io), 17 (JTAG_TDO)D4 (io), 18 (JTAG_TDI)D5 (io), 19 (JTAG_TCK)D6 (io), 20 (JTAG_TMS)D7 (io), 21 GND@21 (power), 22 VBAT (power), 23 !RST! (io), 24 +3V3 (power)

## PARTICLE_PHOTONTEMPLATE
designator JP?, comment Particle Photon    Footprint of the Particle Photon that is used as a basis for many Photon shields.    SparkFun Products:  Particle Photon  SparkFun Photon ProtoShield
GateName_1: G$1; SymbolName_1: PARTICLE_PHOTON; DeviceName: TEMPLATE; LibraryName: SparkFun-Boards; DeviceSetName: PARTICLE_PHOTON; Package: PARTICLE_PHOTON_TEMPLATE
footprint PARTICLE_PHOTON_TEMPLATE
pins: 1,VIN VIN (power), 2,GND@0 GND@2 (power), 3,TX TX (io), 3V3,24 +3V3 (power), 4,RX RX (io), 5,WKP WKP (io), 6,DAC DAC (io), 7,A5 A5(SPI1_MOSI) (io), 8,A4 A4(SPI1_MISO) (io), 9,A3 A3(SPI1_SCK) (io), 10,A2 A2(SPI1_SS) (io), 11,A1 A1 (io), 12,A0 A0 (io), 13,D0 (SDA)D0 (io), 14,D1 (SCL)D1 (io), 15,D2 D2 (io), 16,D3 (JTAG_TRST)D3 (io), 17,D4 (JTAG_TDO)D4 (io), 18,D5 (JTAG_TDI)D5 (io), 19,D6 (JTAG_TCK)D6 (io), 20,D7 (JTAG_TMS)D7 (io), 21,GND@2 GND@21 (power), 22,VBAT VBAT (power), 23,RST !RST! (io)

## PARTICLE_PHOTONTEMPLATE_NO_STANDOFF
designator JP?, comment Particle Photon    Footprint of the Particle Photon that is used as a basis for many Photon shields.    SparkFun Products:  Particle Photon  SparkFun Photon ProtoShield
GateName_1: G$1; SymbolName_1: PARTICLE_PHOTON; DeviceName: TEMPLATE_NO_STANDOFF; LibraryName: SparkFun-Boards; DeviceSetName: PARTICLE_PHOTON; Package: PARTICLE_PHOTON_TEMPLATE_NO_STANDOFF
footprint PARTICLE_PHOTON_TEMPLATE_NO_STANDOFF
pins: 1,VIN VIN (power), 2,GND@0 GND@2 (power), 3,TX TX (io), 3V3,24 +3V3 (power), 4,RX RX (io), 5,WKP WKP (io), 6,DAC DAC (io), 7,A5 A5(SPI1_MOSI) (io), 8,A4 A4(SPI1_MISO) (io), 9,A3 A3(SPI1_SCK) (io), 10,A2 A2(SPI1_SS) (io), 11,A1 A1 (io), 12,A0 A0 (io), 13,D0 (SDA)D0 (io), 14,D1 (SCL)D1 (io), 15,D2 D2 (io), 16,D3 (JTAG_TRST)D3 (io), 17,D4 (JTAG_TDO)D4 (io), 18,D5 (JTAG_TDI)D5 (io), 19,D6 (JTAG_TCK)D6 (io), 20,D7 (JTAG_TMS)D7 (io), 21,GND@2 GND@21 (power), 22,VBAT VBAT (power), 23,RST !RST! (io)

## PARTICLE_PHOTONTEMPLATE_WIDE
designator JP?, comment Particle Photon    Footprint of the Particle Photon that is used as a basis for many Photon shields.    SparkFun Products:  Particle Photon  SparkFun Photon ProtoShield
GateName_1: G$1; SymbolName_1: PARTICLE_PHOTON; DeviceName: TEMPLATE_WIDE; LibraryName: SparkFun-Boards; DeviceSetName: PARTICLE_PHOTON; Package: PARTICLE_PHOTON_TEMPLATE_WIDE
footprint PARTICLE_PHOTON_TEMPLATE_WIDE
pins: 1,VIN VIN (power), 2,GND@0 GND@2 (power), 3,TX TX (io), 3V3,24 +3V3 (power), 4,RX RX (io), 5,WKP WKP (io), 6,DAC DAC (io), 7,A5 A5(SPI1_MOSI) (io), 8,A4 A4(SPI1_MISO) (io), 9,A3 A3(SPI1_SCK) (io), 10,A2 A2(SPI1_SS) (io), 11,A1 A1 (io), 12,A0 A0 (io), 13,D0 (SDA)D0 (io), 14,D1 (SCL)D1 (io), 15,D2 D2 (io), 16,D3 (JTAG_TRST)D3 (io), 17,D4 (JTAG_TDO)D4 (io), 18,D5 (JTAG_TDI)D5 (io), 19,D6 (JTAG_TCK)D6 (io), 20,D7 (JTAG_TMS)D7 (io), 21,GND@2 GND@21 (power), 22,VBAT VBAT (power), 23,RST !RST! (io)

## PRO_MICRO_C
designator U?
GateName_1: U1; SymbolName_1: PRO_MICRO_C; LibraryName: SparkFun-Boards; DeviceSetName: PRO_MICRO_C; Package: PRO_MICRO_C
footprint PRO_MICRO_C
pins: 1 TX (io), 2 RX (io), 3 GND (io), 4 GND@2 (io), 5 D2 (io), 6 D3 (io), 7 D4 (io), 8 D5 (io), 9 D6 (io), 10 D7 (io), 11 D8 (io), 12 D9 (io), 13 10 (io), 14 16 (io), 15 14 (io), 16 15 (io), 17 A0 (io), 18 A1 (io), 19 A2 (io), 20 A3 (io), 21 VCC (io), 22 RESET (io), 23 GND@3 (io), 24 RAW (io)

## QDUINOMINI
designator BOARD?, comment Qduino Mini Board Outline and Pins    Board outline for SparkFun Qduino Mini  (value not drawn)
GateName_1: G$1; SymbolName_1: QDUINOMINI; LibraryName: SparkFun-Boards; DeviceSetName: QDUINOMINI; Package: QDUINO_MINI_V15
footprint QDUINO_MINI_V15
pins: A0 (io), A1 (io), A2 (io), A3 (io), A4 (io), A5 (io), D0 (io), D1 (io), D2 (io), D3 (io), D4 (io), D5 (io), D6 (io), D8 (io), D9 (io), D10 (io), D11 (io), D12 (io), D31 D13 (io), GND (io), LIPO (io), MISO (io), MOSI (io), RST (io), SCK (io), VCC (io), VUSB (io)

## QWIIC_BOARD_OUTLINEH
designator ?, comment Standard Outline of a Qwiic Board. Good for defining a spot on shields and board areas in which to mount a Qwiic Board.  (value not drawn)
GateName_1: G$1; SymbolName_1: QWIIC_BOARD_FOOTPRINT; DeviceName: H; DeviceSetName: QWIIC_BOARD_OUTLINE; LibraryName: SparkFun-Boards; Package: QWIIC_BOARD_MOUNT_HOLES
footprint QWIIC_BOARD_MOUNT_HOLES

## QWIIC_BOARD_OUTLINENH
designator ?, comment Standard Outline of a Qwiic Board. Good for defining a spot on shields and board areas in which to mount a Qwiic Board.  (value not drawn)
GateName_1: G$1; SymbolName_1: QWIIC_BOARD_FOOTPRINT; DeviceName: NH; DeviceSetName: QWIIC_BOARD_OUTLINE; LibraryName: SparkFun-Boards; Package: QWIIC_BOARD_MOUNT_NOHOLES
footprint QWIIC_BOARD_MOUNT_NOHOLES

## QWIIC_BOARD_OUTLINESTANDOFF
designator ?, comment Standard Outline of a Qwiic Board. Good for defining a spot on shields and board areas in which to mount a Qwiic Board.  (value not drawn)
GateName_1: G$1; SymbolName_1: QWIIC_BOARD_FOOTPRINT; DeviceName: STANDOFF; DeviceSetName: QWIIC_BOARD_OUTLINE; LibraryName: SparkFun-Boards; Package: QWIIC_BOARD_MOUNT_SMD_STANDOFFS
footprint QWIIC_BOARD_MOUNT_SMD_STANDOFFS

## QWIIC_MICRO
designator ?
GateName_1: G$1; SymbolName_1: QWIIC_MICRO; LibraryName: SparkFun-Boards; DeviceSetName: QWIIC_MICRO; Package: QWIIC_MICRO
footprint QWIIC_MICRO
pins: 3V3 (io), GND (io), PA00 (io), PA01 (io), PA02 (io), PA04 (io), PA05 (io), PA06 (io), PA07 (io), PA08 (io), PA09 (io), PA22 (io), PA23 (io)

## RFM69_BOB
designator ?
GateName_1: G$1; SymbolName_1: RFM69_BOB; LibraryName: SparkFun-Boards; DeviceSetName: RFM69_BOB; Package: RFM69_BOB
footprint RFM69_BOB
pins: 0 (io), 1 (io), 2 (io), 3 (io), 3.3V (io), 4 (io), 5 (io), A (io), C (io), G (io), G2 (io), GND (io), I (io), O (io), R (io), S (io)

## RGB_LIGHT_SENSOR_ISL29125
designator B?, comment SparkFun RGB Light Sensor - ISL29125    Mechanical footprint with connectors for ISL29125 RGB Light Sensor Breakout.   SparkFun Products:
GateName_1: G$1; SymbolName_1: RGB_LIGHT_SENSOR_ISL29125; LibraryName: SparkFun-Boards; DeviceSetName: RGB_LIGHT_SENSOR_ISL29125; Package: ISL29125
footprint ISL29125
pins: 1 GND (power), 2 3.3V (power), 3 SDA (io), 4 SCL (io), 5 INT (io)

## SAMD21_MINI_BREAKOUT
designator ?
GateName_1: G$1; SymbolName_1: SAMD21_MINI_BREAKOUT; LibraryName: SparkFun-Boards; DeviceSetName: SAMD21_MINI_BREAKOUT; Package: SAMD21_MINI_BREAKOUT
footprint SAMD21_MINI_BREAKOUT
pins: 3V3 (io), !RESET RESET (io), AREF (io), GND,GND1 GND (io), PA02 (io), PA04 (io), PA06 (io), PA07 (io), PA08 (io), PA09 (io), PA10 (io), PA11 (io), PA14 (io), PA15 (io), PA16 (io), PA17 (io), PA18 (io), PA19 (io), PA20 (io), PA21 (io), PB08 (io), PB09 (io), VIN (io)

## SD_MMC_CARDSD_PCB
designator B?, comment SD MMC Card Footprint    Mechanical footprint with connectors of an SD/MMC card- NOT a socket!   SparkFun Products:
GateName_1: G$1; SymbolName_1: SD-MMC-CARD; DeviceName: SD_PCB; DeviceSetName: SD_MMC_CARD; LibraryName: SparkFun-Boards; Package: SD-MMC-CARD
footprint SD-MMC-CARD
pins: 1 CD/DAT3 (io), 2 CMD (io), 3 VSS1 (io), 4 VDD (io), 5 CLK (io), 6 VSS2 (io), 7 DAT0 (io), 8 DAT1 (io), 9 DAT2 (io)

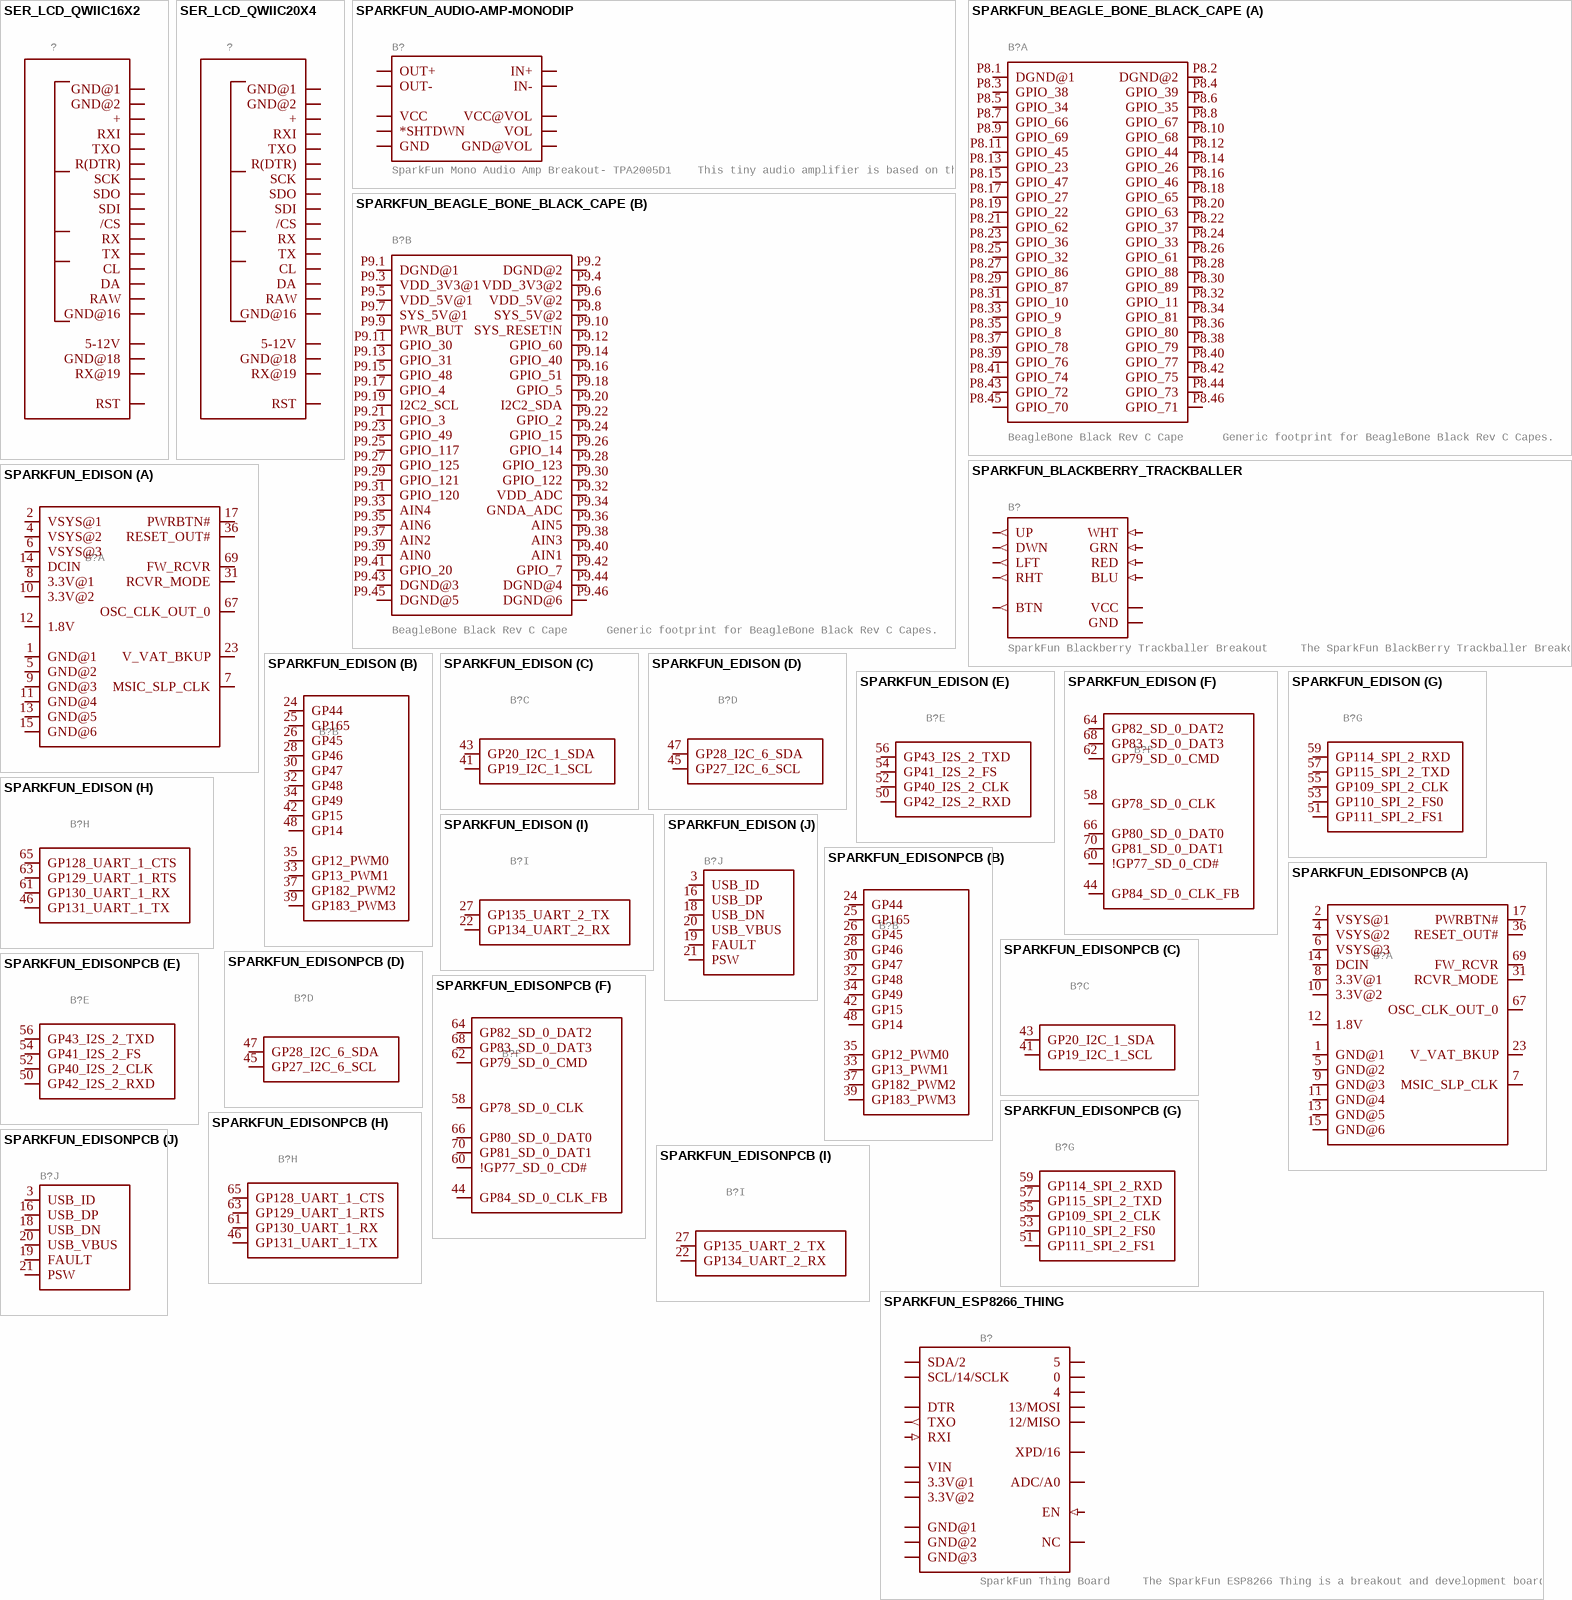
[diagram p4: symbols SER_LCD_QWIIC16X2 to SPARKFUN_ESP8266_THING]

## SER_LCD_QWIIC16X2
designator ?
GateName_1: G$1; SymbolName_1: SER_LCD-1; DeviceName: 16X2; DeviceSetName: SER_LCD_QWIIC; LibraryName: SparkFun-Boards; Package: SER_LCD_QWIIC_16X2
footprint SER_LCD_QWIIC_16X2
pins: P$1 GND@1 (io), P$2 GND@2 (io), P$3 + (io), P$4 RXI (io), P$5 TXO (io), P$6 R(DTR) (io), P$7 SCK (io), P$8 SDO (io), P$9 SDI (io), P$10 /CS (io), P$11 RX (io), P$12 TX (io), P$13 CL (io), P$14 DA (io), P$15 RAW (io), P$16 GND@16 (io), P$17 5-12V (io), P$18 GND@18 (io), P$19 RX@19 (io), P$20 RST (io)

## SER_LCD_QWIIC20X4
designator ?
GateName_1: G$1; SymbolName_1: SER_LCD-1; DeviceName: 20X4; DeviceSetName: SER_LCD_QWIIC; LibraryName: SparkFun-Boards; Package: SER_LCD_QWIIC_20X4
footprint SER_LCD_QWIIC_20X4
pins: P$1 GND@1 (io), P$2 GND@2 (io), P$3 + (io), P$4 RXI (io), P$5 TXO (io), P$6 R(DTR) (io), P$7 SCK (io), P$8 SDO (io), P$9 SDI (io), P$10 /CS (io), P$11 RX (io), P$12 TX (io), P$13 CL (io), P$14 DA (io), P$15 RAW (io), P$16 GND@16 (io), P$17 5-12V (io), P$18 GND@18 (io), P$19 RX@19 (io), P$20 RST (io)

## SPARKFUN_AUDIO-AMP-MONODIP
designator B?, comment SparkFun Mono Audio Amp Breakout- TPA2005D1    This tiny audio amplifier is based on the Texas Instruments TPA2005D1. Its efficient class-D operation means low heat and long battery life.  It can drive an 8-Ohm speaker at up to 1.4 Watts   SparkFun Products: Mono Audio Amp Breakout
GateName_1: U1; SymbolName_1: AUDIO-AMP-MONO; DeviceName: DIP; DeviceSetName: SPARKFUN_AUDIO-AMP-MONO; LibraryName: SparkFun-Boards; Package: AUDIO-AMP-MONO
footprint AUDIO-AMP-MONO
pins: IN+ (io), IN- (io), OUT+ (io), OUT- (io), PWR+ VCC (io), PWR- GND (io), S *SHTDWN (io), VOL (io), VOL+ VCC@VOL (io), VOL- GND@VOL (io)

## SPARKFUN_BEAGLE_BONE_BLACK_CAPE
designator B?, comment BeagleBone Black Rev C Cape      Generic footprint for BeagleBone Black Rev C Capes.   SparkFun Products: SparkFun BeagleBone Black Proto Cape  SparkFun CryptoCape
GateName_1: P8; SymbolName_1: BEAGLE_BONE_BLACK_P8; GateName_2: P9; SymbolName_2: BEAGLE_BONE_BLACK_P9; DeviceSetName: SPARKFUN_BEAGLE_BONE_BLACK_CAPE; LibraryName: SparkFun-Boards; Package: BEAGLE_BONE_BLACK_CAPE
footprint BEAGLE_BONE_BLACK_CAPE
part A pins: P8.1 DGND@1 (io), P8.2 DGND@2 (io), P8.3 GPIO_38 (io), P8.4 GPIO_39 (io), P8.5 GPIO_34 (io), P8.6 GPIO_35 (io), P8.7 GPIO_66 (io), P8.8 GPIO_67 (io), P8.9 GPIO_69 (io), P8.10 GPIO_68 (io), P8.11 GPIO_45 (io), P8.12 GPIO_44 (io), P8.13 GPIO_23 (io), P8.14 GPIO_26 (io), P8.15 GPIO_47 (io), P8.16 GPIO_46 (io), P8.17 GPIO_27 (io), P8.18 GPIO_65 (io), P8.19 GPIO_22 (io), P8.20 GPIO_63 (io), P8.21 GPIO_62 (io), P8.22 GPIO_37 (io), P8.23 GPIO_36 (io), P8.24 GPIO_33 (io), P8.25 GPIO_32 (io), P8.26 GPIO_61 (io), P8.27 GPIO_86 (io), P8.28 GPIO_88 (io), P8.29 GPIO_87 (io), P8.30 GPIO_89 (io), P8.31 GPIO_10 (io), P8.32 GPIO_11 (io), P8.33 GPIO_9 (io), P8.34 GPIO_81 (io), P8.35 GPIO_8 (io), P8.36 GPIO_80 (io), P8.37 GPIO_78 (io), P8.38 GPIO_79 (io), P8.39 GPIO_76 (io), P8.40 GPIO_77 (io), P8.41 GPIO_74 (io), P8.42 GPIO_75 (io), P8.43 GPIO_72 (io), P8.44 GPIO_73 (io), P8.45 GPIO_70 (io), P8.46 GPIO_71 (io)
part B pins: P9.1 DGND@1 (io), P9.2 DGND@2 (io), P9.3 VDD_3V3@1 (io), P9.4 VDD_3V3@2 (io), P9.5 VDD_5V@1 (io), P9.6 VDD_5V@2 (io), P9.7 SYS_5V@1 (io), P9.8 SYS_5V@2 (io), P9.9 PWR_BUT (io), P9.10 SYS_RESET!N (io), P9.11 GPIO_30 (io), P9.12 GPIO_60 (io), P9.13 GPIO_31 (io), P9.14 GPIO_40 (io), P9.15 GPIO_48 (io), P9.16 GPIO_51 (io), P9.17 GPIO_4 (io), P9.18 GPIO_5 (io), P9.19 I2C2_SCL (io), P9.20 I2C2_SDA (io), P9.21 GPIO_3 (io), P9.22 GPIO_2 (io), P9.23 GPIO_49 (io), P9.24 GPIO_15 (io), P9.25 GPIO_117 (io), P9.26 GPIO_14 (io), P9.27 GPIO_125 (io), P9.28 GPIO_123 (io), P9.29 GPIO_121 (io), P9.30 GPIO_122 (io), P9.31 GPIO_120 (io), P9.32 VDD_ADC (io), P9.33 AIN4 (io), P9.34 GNDA_ADC (io), P9.35 AIN6 (io), P9.36 AIN5 (io), P9.37 AIN2 (io), P9.38 AIN3 (io), P9.39 AIN0 (io), P9.40 AIN1 (io), P9.41 GPIO_20 (io), P9.42 GPIO_7 (io), P9.43 DGND@3 (io), P9.44 DGND@4 (io), P9.45 DGND@5 (io), P9.46 DGND@6 (io)

## SPARKFUN_BLACKBERRY_TRACKBALLER
designator B?, comment SparkFun Blackberry Trackballer Breakout     The SparkFun BlackBerry Trackballer Breakout gives you easy access to a trackball which measures up, down, left, and right movements, clicks on the board, as well as adding a bit of flair to your project with four built-in LEDs.   SparkFun Products: SparkFun Blackberry Trackballer Breakout
GateName_1: G$1; SymbolName_1: BLACKBERRY_TRACKBALLER; DeviceSetName: SPARKFUN_BLACKBERRY_TRACKBALLER; PROD_ID: PCB-12486; LibraryName: SparkFun-Boards; Package: SPARKFUN_BLACKBERRY_TRACKBALLER
footprint SPARKFUN_BLACKBERRY_TRACKBALLER
pins: ?1 UP (out), ?2 DWN (out), ?3 LFT (out), ?4 RHT (out), ?5 WHT (in), ?6 RED (in), ?7 BLU (in), ?8 GRN (in), ?9 BTN (out), ?10 VCC (power), ?11 GND (power)

## SPARKFUN_EDISON
designator B?, comment SparkFun Edison     The IntelÂ® Edison is an ultra small computing platform that will change the way you look at embedded electronics. Each Edison packs a huge amount of tech goodies into a tiny package while still providing the same robust strength of your go-to single board computer. Powered by the IntelÂ® Atomâ„¢ SoC dual-core CPU and including an integrated WiFi, Bluetooth LE, and a 70-pin connector to attach a veritable slew of shield-like â€œBlocksâ€ which can be stacked on top of each other.   This device includes footprints for the Edison module itself, as well as the basic board outline used for our Edison blocks.   SparkFun Products: Intel Edison  SparkFun Console Block  SparkFun GPIO Block  SparkFun Battery Block  SparkFun Base Block  SparkFun 9DOF Block  SparkFun OLED Block  SparkFun Dual H-Bridge Block  SparkFun microSD Block  SparkFun ADC Block  SparkFun I2C Block  SparkFun Arduino Block  SparkFun Power Block  SparkFun PWM Block  SparkFun Raspberry Pi Block  SparkFun UART Block  (value not drawn)
GateName_1: _BASIC; SymbolName_1: EDISON_CONNECTOR_BASE; GateName_2: _GPIO; SymbolName_2: EDISON_CONNECTOR_GPIO; GateName_3: _I2C_1; SymbolName_3: EDISON_CONNECTOR_I2C_1; GateName_4: _I2C_6; SymbolName_4: EDISON_CONNECTOR_I2C_6; GateName_5: _I2S; SymbolName_5: EDISON_CONNECTOR_I2S_2; GateName_6: _SD; SymbolName_6: EDISON_CONNECTOR_SD; GateName_7: _SPI; SymbolName_7: EDISON_CONNECTOR_SPI_2; GateName_8: _UART_1; SymbolName_8: EDISON_CONNECTOR_UART_1; GateName_9: _UART_2; SymbolName_9: EDISON_CONNECTOR_UART_2; GateName_10: _USB; SymbolName_10: EDISON_CONNECTOR_USB; DeviceSetName: SPARKFUN_EDISON; LibraryName: SparkFun-Boards; Package: SPARKFUN_EDISON_DAUGHTER
footprint SPARKFUN_EDISON_DAUGHTER
part A pins: 1 GND@1 (power), 2 VSYS@1 (power), 4 VSYS@2 (power), 5 GND@2 (power), 6 VSYS@3 (power), 7 MSIC_SLP_CLK (io), 8 3.3V@1 (power), 9 GND@3 (power), 10 3.3V@2 (power), 11 GND@4 (power), 12 1.8V (power), 13 GND@5 (power), 14 DCIN (power), 15 GND@6 (power), 17 PWRBTN# (io), 23 V_VAT_BKUP (power), 31 RCVR_MODE (io), 36 RESET_OUT# (io), 67 OSC_CLK_OUT_0 (io), 69 FW_RCVR (io)
part B pins: 24 GP44 (io), 25 GP165 (io), 26 GP45 (io), 28 GP46 (io), 30 GP47 (io), 32 GP48 (io), 33 GP13_PWM1 (io), 34 GP49 (io), 35 GP12_PWM0 (io), 37 GP182_PWM2 (io), 39 GP183_PWM3 (io), 42 GP15 (io), 48 GP14 (io)
part C pins: 41 GP19_I2C_1_SCL (io), 43 GP20_I2C_1_SDA (io)
part D pins: 45 GP27_I2C_6_SCL (io), 47 GP28_I2C_6_SDA (io)
part E pins: 50 GP42_I2S_2_RXD (io), 52 GP40_I2S_2_CLK (io), 54 GP41_I2S_2_FS (io), 56 GP43_I2S_2_TXD (io)
part F pins: 44 GP84_SD_0_CLK_FB (io), 58 GP78_SD_0_CLK (io), 60 !GP77_SD_0_CD# (io), 62 GP79_SD_0_CMD (io), 64 GP82_SD_0_DAT2 (io), 66 GP80_SD_0_DAT0 (io), 68 GP83_SD_0_DAT3 (io), 70 GP81_SD_0_DAT1 (io)
part G pins: 51 GP111_SPI_2_FS1 (io), 53 GP110_SPI_2_FS0 (io), 55 GP109_SPI_2_CLK (io), 57 GP115_SPI_2_TXD (io), 59 GP114_SPI_2_RXD (io)
part H pins: 46 GP131_UART_1_TX (io), 61 GP130_UART_1_RX (io), 63 GP129_UART_1_RTS (io), 65 GP128_UART_1_CTS (io)
part I pins: 22 GP134_UART_2_RX (io), 27 GP135_UART_2_TX (io)
part J pins: 3 USB_ID (io), 16 USB_DP (io), 18 USB_DN (io), 19 FAULT (io), 20 USB_VBUS (io), 21 PSW (io)

## SPARKFUN_EDISONPCB
designator B?, comment SparkFun Edison     The IntelÂ® Edison is an ultra small computing platform that will change the way you look at embedded electronics. Each Edison packs a huge amount of tech goodies into a tiny package while still providing the same robust strength of your go-to single board computer. Powered by the IntelÂ® Atomâ„¢ SoC dual-core CPU and including an integrated WiFi, Bluetooth LE, and a 70-pin connector to attach a veritable slew of shield-like â€œBlocksâ€ which can be stacked on top of each other.   This device includes footprints for the Edison module itself, as well as the basic board outline used for our Edison blocks.   SparkFun Products: Intel Edison  SparkFun Console Block  SparkFun GPIO Block  SparkFun Battery Block  SparkFun Base Block  SparkFun 9DOF Block  SparkFun OLED Block  SparkFun Dual H-Bridge Block  SparkFun microSD Block  SparkFun ADC Block  SparkFun I2C Block  SparkFun Arduino Block  SparkFun Power Block  SparkFun PWM Block  SparkFun Raspberry Pi Block  SparkFun UART Block  (value not drawn)
GateName_1: _BASIC; SymbolName_1: EDISON_CONNECTOR_BASE; GateName_2: _GPIO; SymbolName_2: EDISON_CONNECTOR_GPIO; GateName_3: _I2C_1; SymbolName_3: EDISON_CONNECTOR_I2C_1; GateName_4: _I2C_6; SymbolName_4: EDISON_CONNECTOR_I2C_6; GateName_5: _I2S; SymbolName_5: EDISON_CONNECTOR_I2S_2; GateName_6: _SD; SymbolName_6: EDISON_CONNECTOR_SD; GateName_7: _SPI; SymbolName_7: EDISON_CONNECTOR_SPI_2; GateName_8: _UART_1; SymbolName_8: EDISON_CONNECTOR_UART_1; GateName_9: _UART_2; SymbolName_9: EDISON_CONNECTOR_UART_2; GateName_10: _USB; SymbolName_10: EDISON_CONNECTOR_USB; DeviceName: PCB; DeviceSetName: SPARKFUN_EDISON; LibraryName: SparkFun-Boards; Package: SPARKFUN_EDISON_PCB
footprint SPARKFUN_EDISON_PCB
part A pins: 1 GND@1 (power), 2 VSYS@1 (power), 4 VSYS@2 (power), 5 GND@2 (power), 6 VSYS@3 (power), 7 MSIC_SLP_CLK (io), 8 3.3V@1 (power), 9 GND@3 (power), 10 3.3V@2 (power), 11 GND@4 (power), 12 1.8V (power), 13 GND@5 (power), 14 DCIN (power), 15 GND@6 (power), 17 PWRBTN# (io), 23 V_VAT_BKUP (power), 31 RCVR_MODE (io), 36 RESET_OUT# (io), 67 OSC_CLK_OUT_0 (io), 69 FW_RCVR (io)
part B pins: 24 GP44 (io), 25 GP165 (io), 26 GP45 (io), 28 GP46 (io), 30 GP47 (io), 32 GP48 (io), 33 GP13_PWM1 (io), 34 GP49 (io), 35 GP12_PWM0 (io), 37 GP182_PWM2 (io), 39 GP183_PWM3 (io), 42 GP15 (io), 48 GP14 (io)
part C pins: 41 GP19_I2C_1_SCL (io), 43 GP20_I2C_1_SDA (io)
part D pins: 45 GP27_I2C_6_SCL (io), 47 GP28_I2C_6_SDA (io)
part E pins: 50 GP42_I2S_2_RXD (io), 52 GP40_I2S_2_CLK (io), 54 GP41_I2S_2_FS (io), 56 GP43_I2S_2_TXD (io)
part F pins: 44 GP84_SD_0_CLK_FB (io), 58 GP78_SD_0_CLK (io), 60 !GP77_SD_0_CD# (io), 62 GP79_SD_0_CMD (io), 64 GP82_SD_0_DAT2 (io), 66 GP80_SD_0_DAT0 (io), 68 GP83_SD_0_DAT3 (io), 70 GP81_SD_0_DAT1 (io)
part G pins: 51 GP111_SPI_2_FS1 (io), 53 GP110_SPI_2_FS0 (io), 55 GP109_SPI_2_CLK (io), 57 GP115_SPI_2_TXD (io), 59 GP114_SPI_2_RXD (io)
part H pins: 46 GP131_UART_1_TX (io), 61 GP130_UART_1_RX (io), 63 GP129_UART_1_RTS (io), 65 GP128_UART_1_CTS (io)
part I pins: 22 GP134_UART_2_RX (io), 27 GP135_UART_2_TX (io)
part J pins: 3 USB_ID (io), 16 USB_DP (io), 18 USB_DN (io), 19 FAULT (io), 20 USB_VBUS (io), 21 PSW (io)

## SPARKFUN_ESP8266_THING
designator B?, comment SparkFun Thing Board     The SparkFun ESP8266 Thing is a breakout and development board for the ESP8266 WiFi SoC   SparkFun Products:  SparkFun ESP8266 Thing
GateName_1: G$1; SymbolName_1: ESP8266_THING; DeviceSetName: SPARKFUN_ESP8266_THING; SF_ID: WRL-13231; LibraryName: SparkFun-Boards; Package: SPARKFUN_ESP8266_THING
footprint SPARKFUN_ESP8266_THING
pins: 0 (io), 3.3V@1 (power), 3.3V@2 (power), 4 (io), 5 (io), 12 12/MISO (io), 13 13/MOSI (io), ADC ADC/A0 (io), DTR (io), EN (in), GND@1 (power), GND@2 (power), GND@3 (power), NC, RXI (in), SCL SCL/14/SCLK (io), SDA SDA/2 (io), TXO (out), VIN (power), XPD XPD/16 (io)

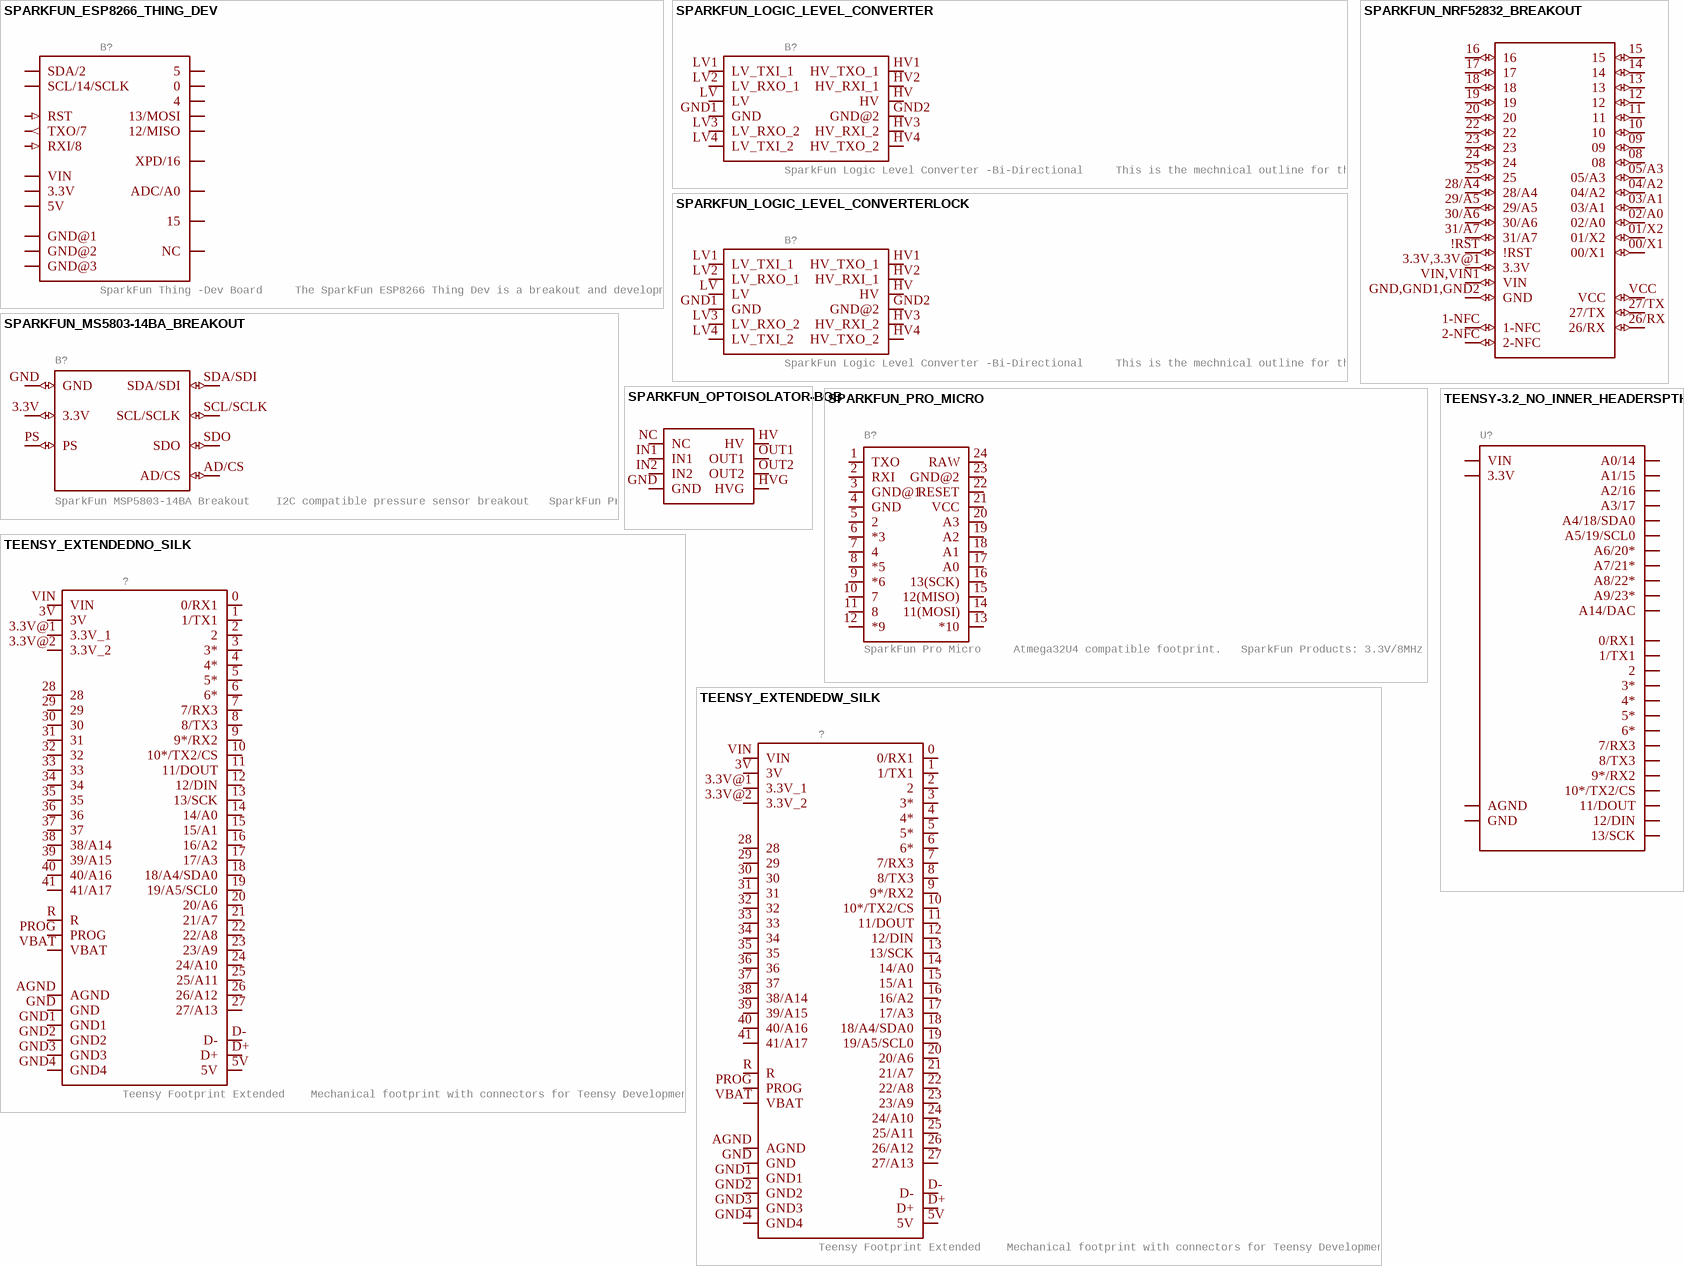
[diagram p5: symbols SPARKFUN_ESP8266_THING_DEV to TEENSY_EXTENDEDW_SILK]

## SPARKFUN_ESP8266_THING_DEV
designator B?, comment SparkFun Thing -Dev Board     The SparkFun ESP8266 Thing Dev is a breakout and development board for the ESP8266 WiFi SoC, with an integrated FTDI USB-to-Serial chip.   SparkFun Products:  SparkFun ESP8266 Thing-Dev Board
GateName_1: G$1; SymbolName_1: ESP8266_THING_DEV; DeviceSetName: SPARKFUN_ESP8266_THING_DEV; SF_ID: WRL-13711; LibraryName: SparkFun-Boards; Package: SPARKFUN_ESP8266_THING_DEV
footprint SPARKFUN_ESP8266_THING_DEV
pins: 0 (io), 2 SDA/2 (io), 3.3V (power), 4 (io), 5 (io), 5V (power), 12 12/MISO (io), 13 13/MOSI (io), 14 SCL/14/SCLK (io), 15 (io), 16 XPD/16 (io), ADC ADC/A0 (io), GND@1 (power), GND@2 (power), GND@3 (power), NC, RST (in), RX RXI/8 (in), TX TXO/7 (out), VIN (power)

## SPARKFUN_LOGIC_LEVEL_CONVERTER
designator B?, comment SparkFun Logic Level Converter -Bi-Directional     This is the mechnical outline for the 3.3V - 5V bi directional logic level converter.    *Note, the "LOCK" Package has the header pins staggered by an offset of 5 mils (off center line), so that when you slide a row of standard 0.1" headers into the PTH pads, it will hold position vertically.See the follwing turorial for more information on this type of special footprints: Sneaky Footprints   SparkFun Products: SparkFun Logic Level Converter - Bi-Directional
GateName_1: G$1; SymbolName_1: LOGIC_LEVEL_CONVERTER; DeviceSetName: SPARKFUN_LOGIC_LEVEL_CONVERTER; LibraryName: SparkFun-Boards; Package: SPARKFUN_LOGIC_LEVEL_CONVERTER
footprint SPARKFUN_LOGIC_LEVEL_CONVERTER
pins: GND1 GND (power), GND2 GND@2 (power), HV (power), HV1 HV_TXO_1 (io), HV2 HV_RXI_1 (io), HV3 HV_RXI_2 (io), HV4 HV_TXO_2 (io), LV (power), LV1 LV_TXI_1 (io), LV2 LV_RXO_1 (io), LV3 LV_RXO_2 (io), LV4 LV_TXI_2 (io)

## SPARKFUN_LOGIC_LEVEL_CONVERTERLOCK
designator B?, comment SparkFun Logic Level Converter -Bi-Directional     This is the mechnical outline for the 3.3V - 5V bi directional logic level converter.    *Note, the "LOCK" Package has the header pins staggered by an offset of 5 mils (off center line), so that when you slide a row of standard 0.1" headers into the PTH pads, it will hold position vertically.See the follwing turorial for more information on this type of special footprints: Sneaky Footprints   SparkFun Products: SparkFun Logic Level Converter - Bi-Directional
GateName_1: G$1; SymbolName_1: LOGIC_LEVEL_CONVERTER; DeviceName: LOCK; DeviceSetName: SPARKFUN_LOGIC_LEVEL_CONVERTER; LibraryName: SparkFun-Boards; Package: SPARKFUN_LOGIC_LEVEL_CONVERTER_LOCK
footprint SPARKFUN_LOGIC_LEVEL_CONVERTER_LOCK
pins: GND1 GND (power), GND2 GND@2 (power), HV (power), HV1 HV_TXO_1 (io), HV2 HV_RXI_1 (io), HV3 HV_RXI_2 (io), HV4 HV_TXO_2 (io), LV (power), LV1 LV_TXI_1 (io), LV2 LV_RXO_1 (io), LV3 LV_RXO_2 (io), LV4 LV_TXI_2 (io)

## SPARKFUN_MS5803-14BA_BREAKOUT
designator B?, comment SparkFun MSP5803-14BA Breakout    I2C compatible pressure sensor breakout   SparkFun Products: SparkFun MSP5803-14BA Breakout
GateName_1: G$1; SymbolName_1: SPARKFUN_MS5803-14BA_BREAKOUT; SF_ID: SEN-12909; LibraryName: SparkFun-Boards; DeviceSetName: SPARKFUN_MS5803-14BA_BREAKOUT; Package: SPARKFUN_MS5803-14BA_BREAKOUT
footprint SPARKFUN_MS5803-14BA_BREAKOUT
pins: 3.3V (io), AD/CS (io), GND (io), PS (io), SCL/SCLK (io), SDA/SDI (io), SDO (io)

## SPARKFUN_NRF52832_BREAKOUT
designator B?, comment SparkFun nRF52832 Breakout    SoC microcontroller with BLE, ANT, Nordic support, and 2.4Ghz multiprotocol radio   SparkFun Products: SparkFun nRF52832 Breakout  (value not drawn)
GateName_1: G$1; SymbolName_1: SPARKFUN_NRF52832_BREAKOUT; SF_ID: WRL-13990; LibraryName: SparkFun-Boards; DeviceSetName: SPARKFUN_NRF52832_BREAKOUT; Package: SPARKFUN_NRF52832_BREAKOUT
footprint SPARKFUN_NRF52832_BREAKOUT
pins: 00/X1 (io), 1-NFC (io), 01/X2 (io), 2-NFC (io), 02/A0 (io), 3.3V,3.3V@1 3.3V (io), 03/A1 (io), 04/A2 (io), 05/A3 (io), 08 (io), 09 (io), 10 (io), 11 (io), 12 (io), 13 (io), 14 (io), 15 (io), 16 (io), 17 (io), 18 (io), 19 (io), 20 (io), 22 (io), 23 (io), 24 (io), 25 (io), 26/RX (io), 27/TX (io), 28/A4 (io), 29/A5 (io), 30/A6 (io), 31/A7 (io), !RST (io), GND,GND1,GND2 GND (io), VCC (io), VIN,VIN1 VIN (io)

## SPARKFUN_OPTOISOLATOR-BOB
designator ?
GateName_1: G$1; SymbolName_1: SPARKFUN_OPTOISOLATOR-BOB; LibraryName: SparkFun-Boards; DeviceSetName: SPARKFUN_OPTOISOLATOR-BOB; Package: SPARKFUN_OPTOISOLATOR-BOB
footprint SPARKFUN_OPTOISOLATOR-BOB
pins: GND (io), HV (io), HVG (io), IN1 (io), IN2 (io), NC (io), OUT1 (io), OUT2 (io)

## SPARKFUN_PRO_MICRO
designator B?, comment SparkFun Pro Micro     Atmega32U4 compatible footprint.   SparkFun Products: 3.3V/8MHz  5V/16MHz
GateName_1: G$1; SymbolName_1: SPARKFUN_PRO_MICRO; LibraryName: SparkFun-Boards; DeviceSetName: SPARKFUN_PRO_MICRO; Package: SPARKFUN_PRO_MICRO
footprint SPARKFUN_PRO_MICRO
pins: 1 TXO (io), 2 RXI (io), 3 GND@1 (power), 4 GND (power), 5 2 (io), 6 *3 (io), 7 4 (io), 8 *5 (io), 9 *6 (io), 10 7 (io), 11 8 (io), 12 *9 (io), 13 *10 (io), 14 11(MOSI) (io), 15 12(MISO) (io), 16 13(SCK) (io), 17 A0 (io), 18 A1 (io), 19 A2 (io), 20 A3 (io), 21 VCC (power), 22 RESET (io), 23 GND@2 (power), 24 RAW (power)

## TEENSY-3.2_NO_INNER_HEADERSPTH
designator U?
GateName_1: U1; SymbolName_1: TEENSY_TEENSY-3.2; DeviceName: PTH; DeviceSetName: TEENSY-3.2_NO_INNER_HEADERS; LibraryName: SparkFun-Boards; Package: TEENSY_TEENSY-3.2-PTH
footprint TEENSY_TEENSY-3.2-PTH
pins: 0 0/RX1 (io), 1 1/TX1 (io), 2 (io), 3 3* (io), 3.3V,3.3V-1 3.3V (io), 4 4* (io), 5 5* (io), 6 6* (io), 7 7/RX3 (io), 8 8/TX3 (io), 9 9*/RX2 (io), 10 10*/TX2/CS (io), 11 11/DOUT (io), 12 12/DIN (io), 13 13/SCK (io), 14 A0/14 (io), 15 A1/15 (io), 16 A2/16 (io), 17 A3/17 (io), 18 A4/18/SDA0 (io), 19 A5/19/SCL0 (io), 20 A6/20* (io), 21 A7/21* (io), 22 A8/22* (io), 23 A9/23* (io), A14/DAC (io), AGND (io), GND,GND1 GND (io), VIN (io)